# Altium integrated library Xilinx XC9500.IntLib: 208 symbols (part 2 of 16)
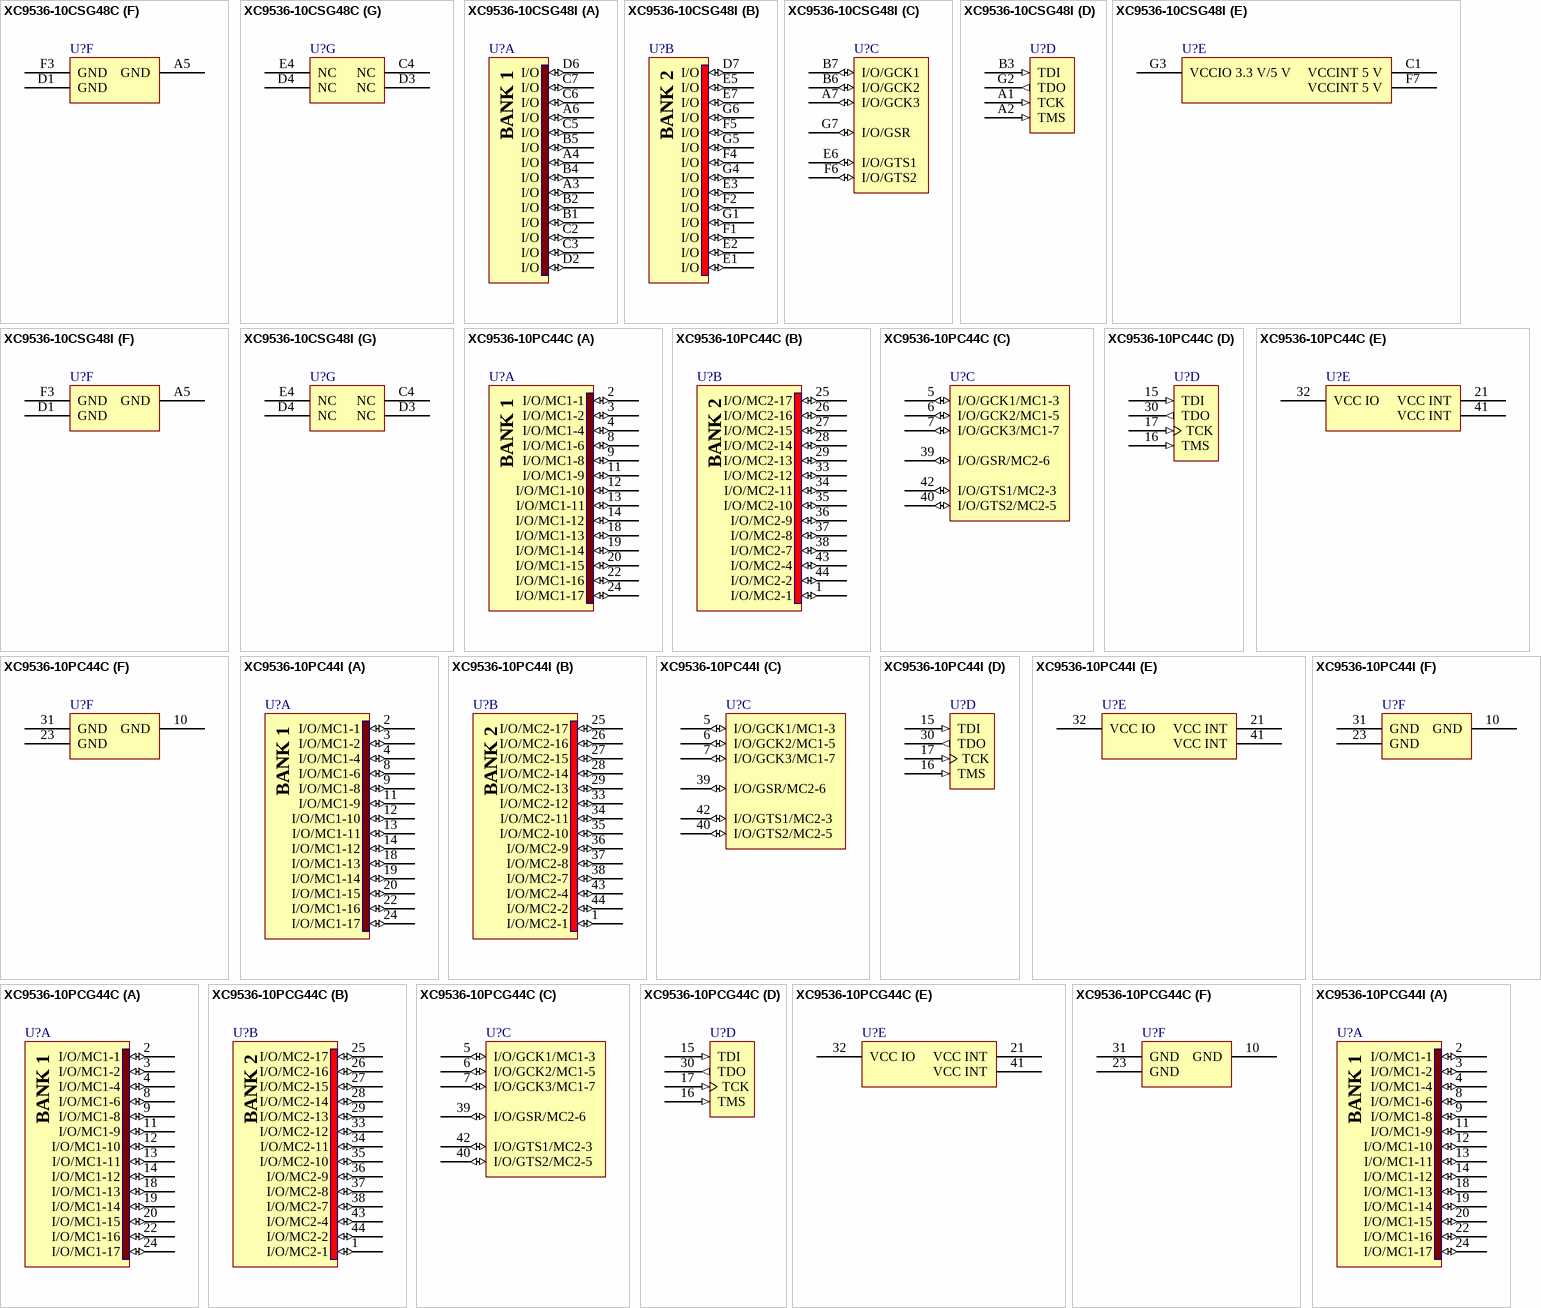
[diagram p74: symbols XC9536-10CSG48C to XC9536-10PCG44I]

## XC9536-10CSG48I
designator U?
XC9500 5V, 36 Macrocell CPLD, 34 User I/Os, 48-Ball CSBGA, Industrial Grade, Pb-Free; Published: 8-Sep-2006; LatestRevisionDate: 18-Nov-2009; LatestRevisionNote: Updated to family datasheet version 5.5 Jun-2007.; DatasheetVersion: ver6.3, Apr-2006; PackageVersion: ver1.2.1, Apr-2005; PackageReference: CSG48; Publisher: Altium Limited; PackageDescription: 48-Ball Chip Scale Ball Grid Array (CSG48) - Pb-Free; ComponentLink1Description: XC9536 Datasheet; ComponentLink1URL: http://www.xilinx.com/support/documentation/data_sheets/ds064.pdf; ComponentLink2Description: CSG48 Package Drawing; ComponentLink2URL: http://www.xilinx.com/support/documentation/package_specs/cs48.pdf; ComponentLink3Description: XC9500 Documents; ComponentLink3URL: http://www.xilinx.com/support/documentation/xc9500.htm; ComponentLink4Description: Xilinx.com Home; ComponentLink4URL: http://www.xilinx.com
footprint CSG48 (BGA, 48-Leads, Body 7x7mm, Pitch 0.8mm)
signal-integrity model XC9536_CSG48 (XC9500)
part A pins: A3 I/O (io), A4 I/O (io), A6 I/O (io), B1 I/O (io), B2 I/O (io), B4 I/O (io), B5 I/O (io), C2 I/O (io), C3 I/O (io), C5 I/O (io), C6 I/O (io), C7 I/O (io), D2 I/O (io), D6 I/O (io)
part B pins: D7 I/O (io), E1 I/O (io), E2 I/O (io), E3 I/O (io), E5 I/O (io), E7 I/O (io), F1 I/O (io), F2 I/O (io), F4 I/O (io), F5 I/O (io), G1 I/O (io), G4 I/O (io), G5 I/O (io), G6 I/O (io)
part C pins: A7 I/O/GCK3 (io), B6 I/O/GCK2 (io), B7 I/O/GCK1 (io), E6 I/O/GTS1 (io), F6 I/O/GTS2 (io), G7 I/O/GSR (io)
part D pins: A1 TCK (in), A2 TMS (in), B3 TDI (in), G2 TDO (out)
part E pins: C1 VCCINT 5 V (power), F7 VCCINT 5 V (power), G3 VCCIO 3.3 V/5 V (power)
part F pins: A5 GND (power), D1 GND (power), F3 GND (power)
part G pins: C4 NC, D3 NC, D4 NC, E4 NC
part A text: BANK 1
part B text: BANK 2

## XC9536-10PC44C
designator U?
XC9500 5V, 36 Macrocell CPLD, 34 User I/Os, 44-Pin PLCC, Commercial Grade; Published: 8-Jun-2000; LatestRevisionDate: 18-Nov-2009; LatestRevisionNote: Updated to family datasheet version 5.5 Jun-2007.; DatasheetVersion: ver6.3, Apr-2006; PackageVersion: ver1.2, Jun-2004; PackageReference: PC44; Publisher: Altium Limited; PackageDescription: 44-Pin Plastic Leaded Chip Carrier (PC44); Supplier 1: Digi-Key; Supplier Part Number 1: XC9536-10PC44C-ND; Code_JEDEC: MS-047; Code_IPC: PLCC-44; ComponentLink1Description: XC9536 Datasheet; ComponentLink1URL: http://www.xilinx.com/support/documentation/data_sheets/ds064.pdf; ComponentLink2Description: PC44 Package Drawing; ComponentLink2URL: http://www.xilinx.com/support/documentation/package_specs/pc44.pdf; ComponentLink3Description: XC9500 Documents; ComponentLink3URL: http://www.xilinx.com/support/documentation/xc9500.htm; ComponentLink4Description: Xilinx.com Home; ComponentLink4URL: http://www.xilinx.com
footprint PC44_N (Leaded Chip Carrier, 44-Leads, Body 16.6x16.6mm, Pitch 1.27mm, IPC Medium Density)
footprint PC44_L (Leaded Chip Carrier, 44-Leads, Body 16.6x16.6mm, Pitch 1.27mm, IPC High Density)
footprint PC44_M (Leaded Chip Carrier, 44-Leads, Body 16.6x16.6mm, Pitch 1.27mm, IPC Low Density)
signal-integrity model XC9536_PLCC44 (XC9500)
part A pins: 2 I/O/MC1-1 (io), 3 I/O/MC1-2 (io), 4 I/O/MC1-4 (io), 8 I/O/MC1-6 (io), 9 I/O/MC1-8 (io), 11 I/O/MC1-9 (io), 12 I/O/MC1-10 (io), 13 I/O/MC1-11 (io), 14 I/O/MC1-12 (io), 18 I/O/MC1-13 (io), 19 I/O/MC1-14 (io), 20 I/O/MC1-15 (io), 22 I/O/MC1-16 (io), 24 I/O/MC1-17 (io)
part B pins: 1 I/O/MC2-1 (io), 25 I/O/MC2-17 (io), 26 I/O/MC2-16 (io), 27 I/O/MC2-15 (io), 28 I/O/MC2-14 (io), 29 I/O/MC2-13 (io), 33 I/O/MC2-12 (io), 34 I/O/MC2-11 (io), 35 I/O/MC2-10 (io), 36 I/O/MC2-9 (io), 37 I/O/MC2-8 (io), 38 I/O/MC2-7 (io), 43 I/O/MC2-4 (io), 44 I/O/MC2-2 (io)
part C pins: 5 I/O/GCK1/MC1-3 (io), 6 I/O/GCK2/MC1-5 (io), 7 I/O/GCK3/MC1-7 (io), 39 I/O/GSR/MC2-6 (io), 40 I/O/GTS2/MC2-5 (io), 42 I/O/GTS1/MC2-3 (io)
part D pins: 15 TDI (in), 16 TMS (in), 17 TCK (in), 30 TDO (out)
part E pins: 21 VCC INT (power), 32 VCC IO (power), 41 VCC INT (power)
part F pins: 10 GND (power), 23 GND (power), 31 GND (power)
part A text: BANK 1
part B text: BANK 2

## XC9536-10PC44I
designator U?
XC9500 5V, 36 Macrocell CPLD, 34 User I/Os, 44-Pin PLCC, Industrial Grade; Published: 8-Jun-2000; LatestRevisionDate: 18-Nov-2009; LatestRevisionNote: Updated to family datasheet version 5.5 Jun-2007.; DatasheetVersion: ver6.3, Apr-2006; PackageVersion: ver1.2, Jun-2004; PackageReference: PC44; Publisher: Altium Limited; PackageDescription: 44-Pin Plastic Leaded Chip Carrier (PC44); Supplier 1: Digi-Key; Supplier Part Number 1: XC9536-10PC44I-ND; Code_JEDEC: MS-047; Code_IPC: PLCC-44; ComponentLink1Description: XC9536 Datasheet; ComponentLink1URL: http://www.xilinx.com/support/documentation/data_sheets/ds064.pdf; ComponentLink2Description: PC44 Package Drawing; ComponentLink2URL: http://www.xilinx.com/support/documentation/package_specs/pc44.pdf; ComponentLink3Description: XC9500 Documents; ComponentLink3URL: http://www.xilinx.com/support/documentation/xc9500.htm; ComponentLink4Description: Xilinx.com Home; ComponentLink4URL: http://www.xilinx.com
footprint PC44_N (Leaded Chip Carrier, 44-Leads, Body 16.6x16.6mm, Pitch 1.27mm, IPC Medium Density)
footprint PC44_L (Leaded Chip Carrier, 44-Leads, Body 16.6x16.6mm, Pitch 1.27mm, IPC High Density)
footprint PC44_M (Leaded Chip Carrier, 44-Leads, Body 16.6x16.6mm, Pitch 1.27mm, IPC Low Density)
signal-integrity model XC9536_PLCC44 (XC9500)
part A pins: 2 I/O/MC1-1 (io), 3 I/O/MC1-2 (io), 4 I/O/MC1-4 (io), 8 I/O/MC1-6 (io), 9 I/O/MC1-8 (io), 11 I/O/MC1-9 (io), 12 I/O/MC1-10 (io), 13 I/O/MC1-11 (io), 14 I/O/MC1-12 (io), 18 I/O/MC1-13 (io), 19 I/O/MC1-14 (io), 20 I/O/MC1-15 (io), 22 I/O/MC1-16 (io), 24 I/O/MC1-17 (io)
part B pins: 1 I/O/MC2-1 (io), 25 I/O/MC2-17 (io), 26 I/O/MC2-16 (io), 27 I/O/MC2-15 (io), 28 I/O/MC2-14 (io), 29 I/O/MC2-13 (io), 33 I/O/MC2-12 (io), 34 I/O/MC2-11 (io), 35 I/O/MC2-10 (io), 36 I/O/MC2-9 (io), 37 I/O/MC2-8 (io), 38 I/O/MC2-7 (io), 43 I/O/MC2-4 (io), 44 I/O/MC2-2 (io)
part C pins: 5 I/O/GCK1/MC1-3 (io), 6 I/O/GCK2/MC1-5 (io), 7 I/O/GCK3/MC1-7 (io), 39 I/O/GSR/MC2-6 (io), 40 I/O/GTS2/MC2-5 (io), 42 I/O/GTS1/MC2-3 (io)
part D pins: 15 TDI (in), 16 TMS (in), 17 TCK (in), 30 TDO (out)
part E pins: 21 VCC INT (power), 32 VCC IO (power), 41 VCC INT (power)
part F pins: 10 GND (power), 23 GND (power), 31 GND (power)
part A text: BANK 1
part B text: BANK 2

## XC9536-10PCG44C
designator U?
XC9500 5V, 36 Macrocell CPLD, 34 User I/Os, 44-Pin PLCC, Commercial Grade, Pb-Free; Published: 8-Sep-2006; LatestRevisionDate: 18-Nov-2009; LatestRevisionNote: Updated to family datasheet version 5.5 Jun-2007.; DatasheetVersion: ver6.3, Apr-2006; PackageVersion: ver1.2, Jun-2004; PackageReference: PCG44; Publisher: Altium Limited; PackageDescription: 44-Pin Plastic Leaded Chip Carrier (PCG44) - Pb-Free; Supplier 1: Digi-Key; Supplier Part Number 1: 122-1431-ND; Code_JEDEC: MS-047; Code_IPC: PLCC-44; ComponentLink1Description: XC9536 Datasheet; ComponentLink1URL: http://www.xilinx.com/support/documentation/data_sheets/ds064.pdf; ComponentLink2Description: PCG44 Package Drawing; ComponentLink2URL: http://www.xilinx.com/support/documentation/package_specs/pc44.pdf; ComponentLink3Description: XC9500 Documents; ComponentLink3URL: http://www.xilinx.com/support/documentation/xc9500.htm; ComponentLink4Description: Xilinx.com Home; ComponentLink4URL: http://www.xilinx.com
footprint PCG44_N (Leaded Chip Carrier, 44-Leads, Body 16.6x16.6mm, Pitch 1.27mm, IPC Medium Density)
footprint PCG44_L (Leaded Chip Carrier, 44-Leads, Body 16.6x16.6mm, Pitch 1.27mm, IPC High Density)
footprint PCG44_M (Leaded Chip Carrier, 44-Leads, Body 16.6x16.6mm, Pitch 1.27mm, IPC Low Density)
signal-integrity model XC9536_PCG44 (XC9500)
part A pins: 2 I/O/MC1-1 (io), 3 I/O/MC1-2 (io), 4 I/O/MC1-4 (io), 8 I/O/MC1-6 (io), 9 I/O/MC1-8 (io), 11 I/O/MC1-9 (io), 12 I/O/MC1-10 (io), 13 I/O/MC1-11 (io), 14 I/O/MC1-12 (io), 18 I/O/MC1-13 (io), 19 I/O/MC1-14 (io), 20 I/O/MC1-15 (io), 22 I/O/MC1-16 (io), 24 I/O/MC1-17 (io)
part B pins: 1 I/O/MC2-1 (io), 25 I/O/MC2-17 (io), 26 I/O/MC2-16 (io), 27 I/O/MC2-15 (io), 28 I/O/MC2-14 (io), 29 I/O/MC2-13 (io), 33 I/O/MC2-12 (io), 34 I/O/MC2-11 (io), 35 I/O/MC2-10 (io), 36 I/O/MC2-9 (io), 37 I/O/MC2-8 (io), 38 I/O/MC2-7 (io), 43 I/O/MC2-4 (io), 44 I/O/MC2-2 (io)
part C pins: 5 I/O/GCK1/MC1-3 (io), 6 I/O/GCK2/MC1-5 (io), 7 I/O/GCK3/MC1-7 (io), 39 I/O/GSR/MC2-6 (io), 40 I/O/GTS2/MC2-5 (io), 42 I/O/GTS1/MC2-3 (io)
part D pins: 15 TDI (in), 16 TMS (in), 17 TCK (in), 30 TDO (out)
part E pins: 21 VCC INT (power), 32 VCC IO (power), 41 VCC INT (power)
part F pins: 10 GND (power), 23 GND (power), 31 GND (power)
part A text: BANK 1
part B text: BANK 2

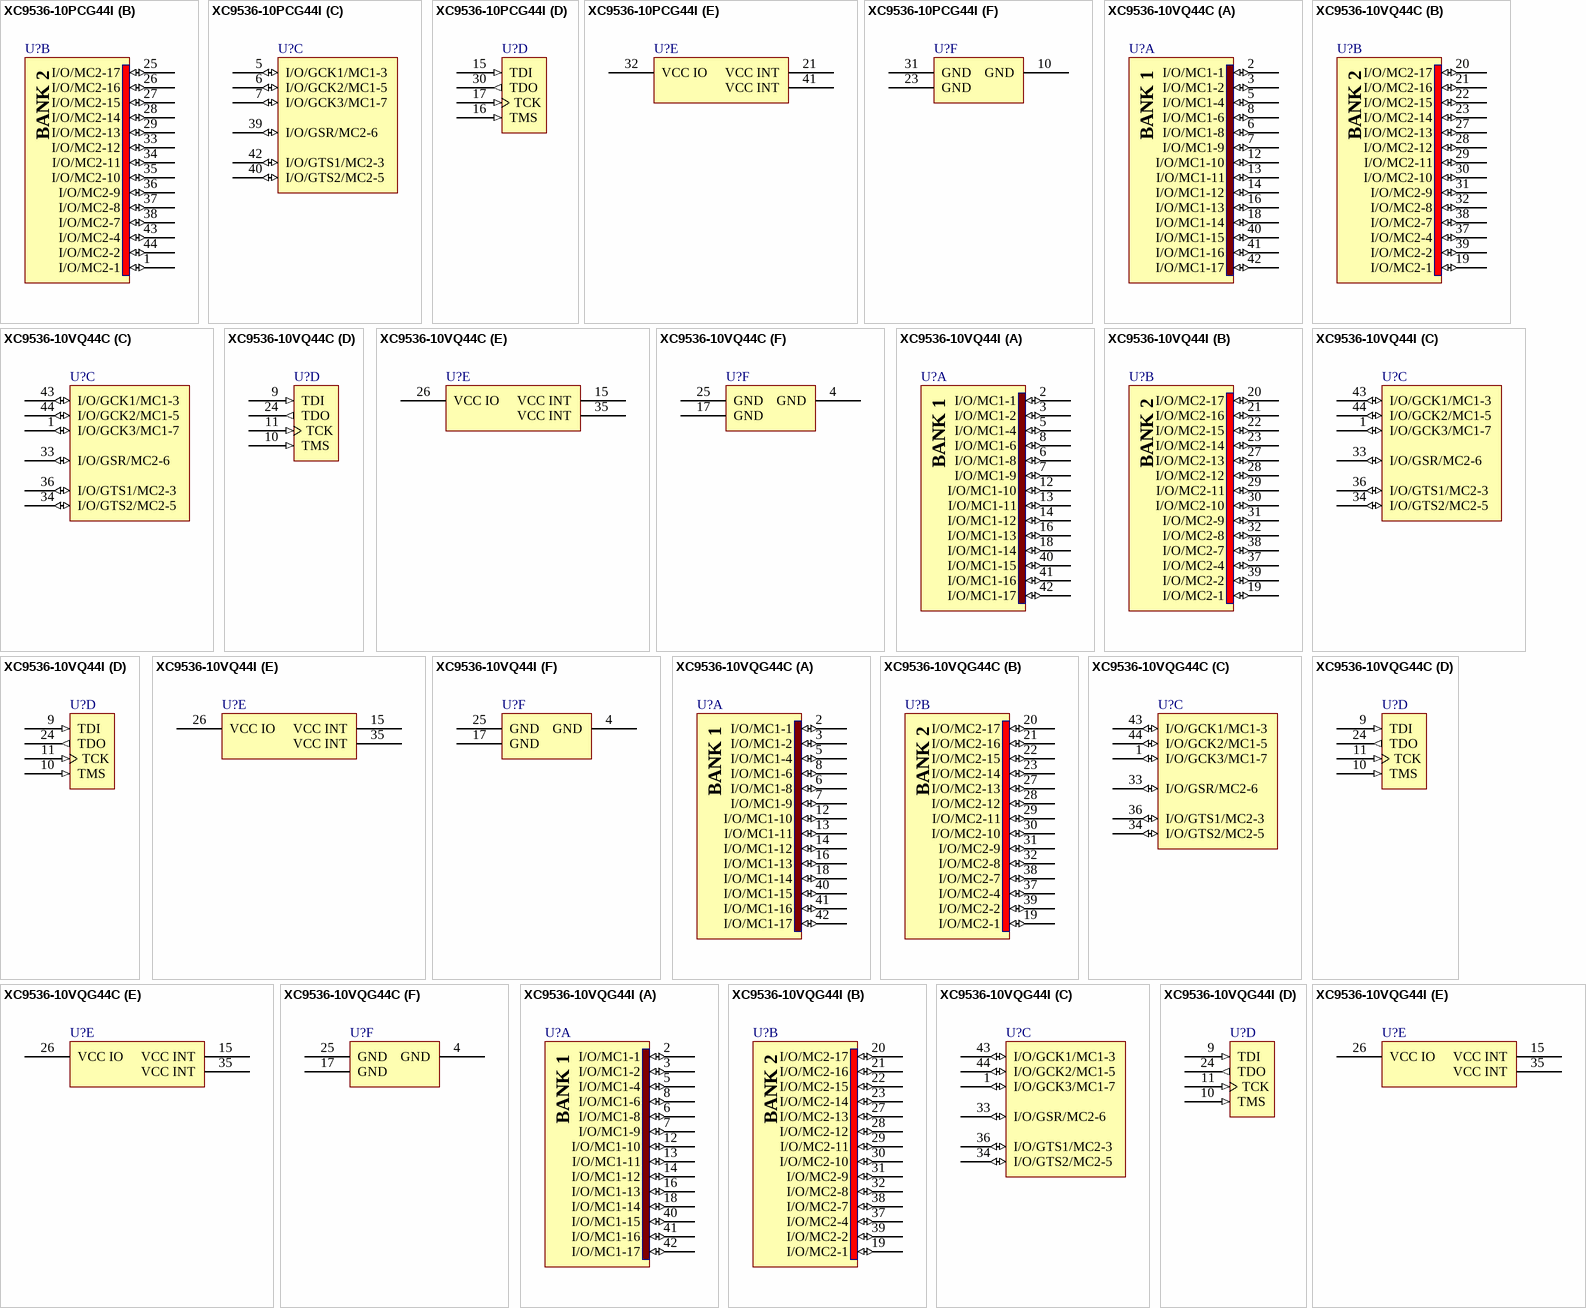
[diagram p6: symbols XC9536-10PCG44I to XC9536-10VQG44I]

## XC9536-10PCG44I
designator U?
XC9500 5V, 36 Macrocell CPLD, 34 User I/Os, 44-Pin PLCC, Industrial Grade, Pb-Free; Published: 8-Sep-2006; LatestRevisionDate: 18-Nov-2009; LatestRevisionNote: Updated to family datasheet version 5.5 Jun-2007.; DatasheetVersion: ver6.3, Apr-2006; PackageVersion: ver1.2, Jun-2004; PackageReference: PCG44; Publisher: Altium Limited; PackageDescription: 44-Pin Plastic Leaded Chip Carrier (PCG44) - Pb-Free; Code_JEDEC: MS-047; Code_IPC: PLCC-44; ComponentLink1Description: XC9536 Datasheet; ComponentLink1URL: http://www.xilinx.com/support/documentation/data_sheets/ds064.pdf; ComponentLink2Description: PCG44 Package Drawing; ComponentLink2URL: http://www.xilinx.com/support/documentation/package_specs/pc44.pdf; ComponentLink3Description: XC9500 Documents; ComponentLink3URL: http://www.xilinx.com/support/documentation/xc9500.htm; ComponentLink4Description: Xilinx.com Home; ComponentLink4URL: http://www.xilinx.com
footprint PCG44_N (Leaded Chip Carrier, 44-Leads, Body 16.6x16.6mm, Pitch 1.27mm, IPC Medium Density)
footprint PCG44_L (Leaded Chip Carrier, 44-Leads, Body 16.6x16.6mm, Pitch 1.27mm, IPC High Density)
footprint PCG44_M (Leaded Chip Carrier, 44-Leads, Body 16.6x16.6mm, Pitch 1.27mm, IPC Low Density)
signal-integrity model XC9536_PCG44 (XC9500)
part A pins: 2 I/O/MC1-1 (io), 3 I/O/MC1-2 (io), 4 I/O/MC1-4 (io), 8 I/O/MC1-6 (io), 9 I/O/MC1-8 (io), 11 I/O/MC1-9 (io), 12 I/O/MC1-10 (io), 13 I/O/MC1-11 (io), 14 I/O/MC1-12 (io), 18 I/O/MC1-13 (io), 19 I/O/MC1-14 (io), 20 I/O/MC1-15 (io), 22 I/O/MC1-16 (io), 24 I/O/MC1-17 (io)
part B pins: 1 I/O/MC2-1 (io), 25 I/O/MC2-17 (io), 26 I/O/MC2-16 (io), 27 I/O/MC2-15 (io), 28 I/O/MC2-14 (io), 29 I/O/MC2-13 (io), 33 I/O/MC2-12 (io), 34 I/O/MC2-11 (io), 35 I/O/MC2-10 (io), 36 I/O/MC2-9 (io), 37 I/O/MC2-8 (io), 38 I/O/MC2-7 (io), 43 I/O/MC2-4 (io), 44 I/O/MC2-2 (io)
part C pins: 5 I/O/GCK1/MC1-3 (io), 6 I/O/GCK2/MC1-5 (io), 7 I/O/GCK3/MC1-7 (io), 39 I/O/GSR/MC2-6 (io), 40 I/O/GTS2/MC2-5 (io), 42 I/O/GTS1/MC2-3 (io)
part D pins: 15 TDI (in), 16 TMS (in), 17 TCK (in), 30 TDO (out)
part E pins: 21 VCC INT (power), 32 VCC IO (power), 41 VCC INT (power)
part F pins: 10 GND (power), 23 GND (power), 31 GND (power)
part A text: BANK 1
part B text: BANK 2

## XC9536-10VQ44C
designator U?
XC9500 5V, 36 Macrocell CPLD, 34 User I/Os, 44-Pin VQFP, Commercial Grade; Published: 8-Jun-2000; LatestRevisionDate: 18-Nov-2009; LatestRevisionNote: Updated to family datasheet version 5.5 Jun-2007.; DatasheetVersion: ver6.3, Apr-2006; PackageVersion: ver1.2, Jun-2004; PackageReference: VQ44; Publisher: Altium Limited; PackageDescription: 44-Pin Very Thin Quad Flat Pack (VQ44); Supplier 1: Digi-Key; Supplier Part Number 1: 122-1393-ND; Code_JEDEC: MS-026-ACB; ComponentLink1Description: XC9536 Datasheet; ComponentLink1URL: http://www.xilinx.com/support/documentation/data_sheets/ds064.pdf; ComponentLink2Description: VQ44 Package Drawing; ComponentLink2URL: http://www.xilinx.com/support/documentation/package_specs/vq44.pdf; ComponentLink3Description: XC9500 Documents; ComponentLink3URL: http://www.xilinx.com/support/documentation/xc9500.htm; ComponentLink4Description: Xilinx.com Home; ComponentLink4URL: http://www.xilinx.com
footprint VQ44_N (Thin QFP, 44-Leads, Body 10x10mm, Pitch 0.8mm, IPC Medium Density)
footprint VQ44_L (Thin QFP, 44-Leads, Body 10x10mm, Pitch 0.8mm, IPC High Density)
footprint VQ44_M (Thin QFP, 44-Leads, Body 10x10mm, Pitch 0.8mm, IPC Low Density)
signal-integrity model XC9536_VQ44 (XC9500)
part A pins: 2 I/O/MC1-1 (io), 3 I/O/MC1-2 (io), 5 I/O/MC1-4 (io), 6 I/O/MC1-8 (io), 7 I/O/MC1-9 (io), 8 I/O/MC1-6 (io), 12 I/O/MC1-10 (io), 13 I/O/MC1-11 (io), 14 I/O/MC1-12 (io), 16 I/O/MC1-13 (io), 18 I/O/MC1-14 (io), 40 I/O/MC1-15 (io), 41 I/O/MC1-16 (io), 42 I/O/MC1-17 (io)
part B pins: 19 I/O/MC2-1 (io), 20 I/O/MC2-17 (io), 21 I/O/MC2-16 (io), 22 I/O/MC2-15 (io), 23 I/O/MC2-14 (io), 27 I/O/MC2-13 (io), 28 I/O/MC2-12 (io), 29 I/O/MC2-11 (io), 30 I/O/MC2-10 (io), 31 I/O/MC2-9 (io), 32 I/O/MC2-8 (io), 37 I/O/MC2-4 (io), 38 I/O/MC2-7 (io), 39 I/O/MC2-2 (io)
part C pins: 1 I/O/GCK3/MC1-7 (io), 33 I/O/GSR/MC2-6 (io), 34 I/O/GTS2/MC2-5 (io), 36 I/O/GTS1/MC2-3 (io), 43 I/O/GCK1/MC1-3 (io), 44 I/O/GCK2/MC1-5 (io)
part D pins: 9 TDI (in), 10 TMS (in), 11 TCK (in), 24 TDO (out)
part E pins: 15 VCC INT (power), 26 VCC IO (power), 35 VCC INT (power)
part F pins: 4 GND (power), 17 GND (power), 25 GND (power)
part A text: BANK 1
part B text: BANK 2

## XC9536-10VQ44I
designator U?
XC9500 5V, 36 Macrocell CPLD, 34 User I/Os, 44-Pin VQFP, Industrial Grade; Published: 8-Jun-2000; LatestRevisionDate: 18-Nov-2009; LatestRevisionNote: Updated to family datasheet version 5.5 Jun-2007.; DatasheetVersion: ver6.3, Apr-2006; PackageVersion: ver1.2, Jun-2004; PackageReference: VQ44; Publisher: Altium Limited; PackageDescription: 44-Pin Very Thin Quad Flat Pack (VQ44); Supplier 1: Digi-Key; Supplier Part Number 1: XC9536-10VQ44I-ND; Code_JEDEC: MS-026-ACB; ComponentLink1Description: XC9536 Datasheet; ComponentLink1URL: http://www.xilinx.com/support/documentation/data_sheets/ds064.pdf; ComponentLink2Description: VQ44 Package Drawing; ComponentLink2URL: http://www.xilinx.com/support/documentation/package_specs/vq44.pdf; ComponentLink3Description: XC9500 Documents; ComponentLink3URL: http://www.xilinx.com/support/documentation/xc9500.htm; ComponentLink4Description: Xilinx.com Home; ComponentLink4URL: http://www.xilinx.com
footprint VQ44_N (Thin QFP, 44-Leads, Body 10x10mm, Pitch 0.8mm, IPC Medium Density)
footprint VQ44_L (Thin QFP, 44-Leads, Body 10x10mm, Pitch 0.8mm, IPC High Density)
footprint VQ44_M (Thin QFP, 44-Leads, Body 10x10mm, Pitch 0.8mm, IPC Low Density)
signal-integrity model XC9536_VQ44 (XC9500)
part A pins: 2 I/O/MC1-1 (io), 3 I/O/MC1-2 (io), 5 I/O/MC1-4 (io), 6 I/O/MC1-8 (io), 7 I/O/MC1-9 (io), 8 I/O/MC1-6 (io), 12 I/O/MC1-10 (io), 13 I/O/MC1-11 (io), 14 I/O/MC1-12 (io), 16 I/O/MC1-13 (io), 18 I/O/MC1-14 (io), 40 I/O/MC1-15 (io), 41 I/O/MC1-16 (io), 42 I/O/MC1-17 (io)
part B pins: 19 I/O/MC2-1 (io), 20 I/O/MC2-17 (io), 21 I/O/MC2-16 (io), 22 I/O/MC2-15 (io), 23 I/O/MC2-14 (io), 27 I/O/MC2-13 (io), 28 I/O/MC2-12 (io), 29 I/O/MC2-11 (io), 30 I/O/MC2-10 (io), 31 I/O/MC2-9 (io), 32 I/O/MC2-8 (io), 37 I/O/MC2-4 (io), 38 I/O/MC2-7 (io), 39 I/O/MC2-2 (io)
part C pins: 1 I/O/GCK3/MC1-7 (io), 33 I/O/GSR/MC2-6 (io), 34 I/O/GTS2/MC2-5 (io), 36 I/O/GTS1/MC2-3 (io), 43 I/O/GCK1/MC1-3 (io), 44 I/O/GCK2/MC1-5 (io)
part D pins: 9 TDI (in), 10 TMS (in), 11 TCK (in), 24 TDO (out)
part E pins: 15 VCC INT (power), 26 VCC IO (power), 35 VCC INT (power)
part F pins: 4 GND (power), 17 GND (power), 25 GND (power)
part A text: BANK 1
part B text: BANK 2

## XC9536-10VQG44C
designator U?
XC9500 5V, 36 Macrocell CPLD, 34 User I/Os, 44-Pin VQFP, Commercial Grade, Pb-Free; Published: 8-Sep-2006; LatestRevisionDate: 18-Nov-2009; LatestRevisionNote: Updated to family datasheet version 5.5 Jun-2007.; DatasheetVersion: ver6.3, Apr-2006; PackageVersion: ver1.2, Jun-2004; PackageReference: VQG44; Publisher: Altium Limited; PackageDescription: 44-Pin Very Thin Quad Flat Pack (VQG44) - Pb-Free; Supplier 1: Digi-Key; Supplier Part Number 1: 122-1432-ND; Code_JEDEC: MS-026-ACB; ComponentLink1Description: XC9536 Datasheet; ComponentLink1URL: http://www.xilinx.com/support/documentation/data_sheets/ds064.pdf; ComponentLink2Description: VQG44 Package Drawing; ComponentLink2URL: http://www.xilinx.com/support/documentation/package_specs/vq44.pdf; ComponentLink3Description: XC9500 Documents; ComponentLink3URL: http://www.xilinx.com/support/documentation/xc9500.htm; ComponentLink4Description: Xilinx.com Home; ComponentLink4URL: http://www.xilinx.com
footprint VQG44_N (Thin QFP, 44-Leads, Body 10x10mm, Pitch 0.8mm, IPC Medium Density)
footprint VQG44_L (Thin QFP, 44-Leads, Body 10x10mm, Pitch 0.8mm, IPC High Density)
footprint VQG44_M (Thin QFP, 44-Leads, Body 10x10mm, Pitch 0.8mm, IPC Low Density)
signal-integrity model XC9536_VQG44 (XC9500)
part A pins: 2 I/O/MC1-1 (io), 3 I/O/MC1-2 (io), 5 I/O/MC1-4 (io), 6 I/O/MC1-8 (io), 7 I/O/MC1-9 (io), 8 I/O/MC1-6 (io), 12 I/O/MC1-10 (io), 13 I/O/MC1-11 (io), 14 I/O/MC1-12 (io), 16 I/O/MC1-13 (io), 18 I/O/MC1-14 (io), 40 I/O/MC1-15 (io), 41 I/O/MC1-16 (io), 42 I/O/MC1-17 (io)
part B pins: 19 I/O/MC2-1 (io), 20 I/O/MC2-17 (io), 21 I/O/MC2-16 (io), 22 I/O/MC2-15 (io), 23 I/O/MC2-14 (io), 27 I/O/MC2-13 (io), 28 I/O/MC2-12 (io), 29 I/O/MC2-11 (io), 30 I/O/MC2-10 (io), 31 I/O/MC2-9 (io), 32 I/O/MC2-8 (io), 37 I/O/MC2-4 (io), 38 I/O/MC2-7 (io), 39 I/O/MC2-2 (io)
part C pins: 1 I/O/GCK3/MC1-7 (io), 33 I/O/GSR/MC2-6 (io), 34 I/O/GTS2/MC2-5 (io), 36 I/O/GTS1/MC2-3 (io), 43 I/O/GCK1/MC1-3 (io), 44 I/O/GCK2/MC1-5 (io)
part D pins: 9 TDI (in), 10 TMS (in), 11 TCK (in), 24 TDO (out)
part E pins: 15 VCC INT (power), 26 VCC IO (power), 35 VCC INT (power)
part F pins: 4 GND (power), 17 GND (power), 25 GND (power)
part A text: BANK 1
part B text: BANK 2

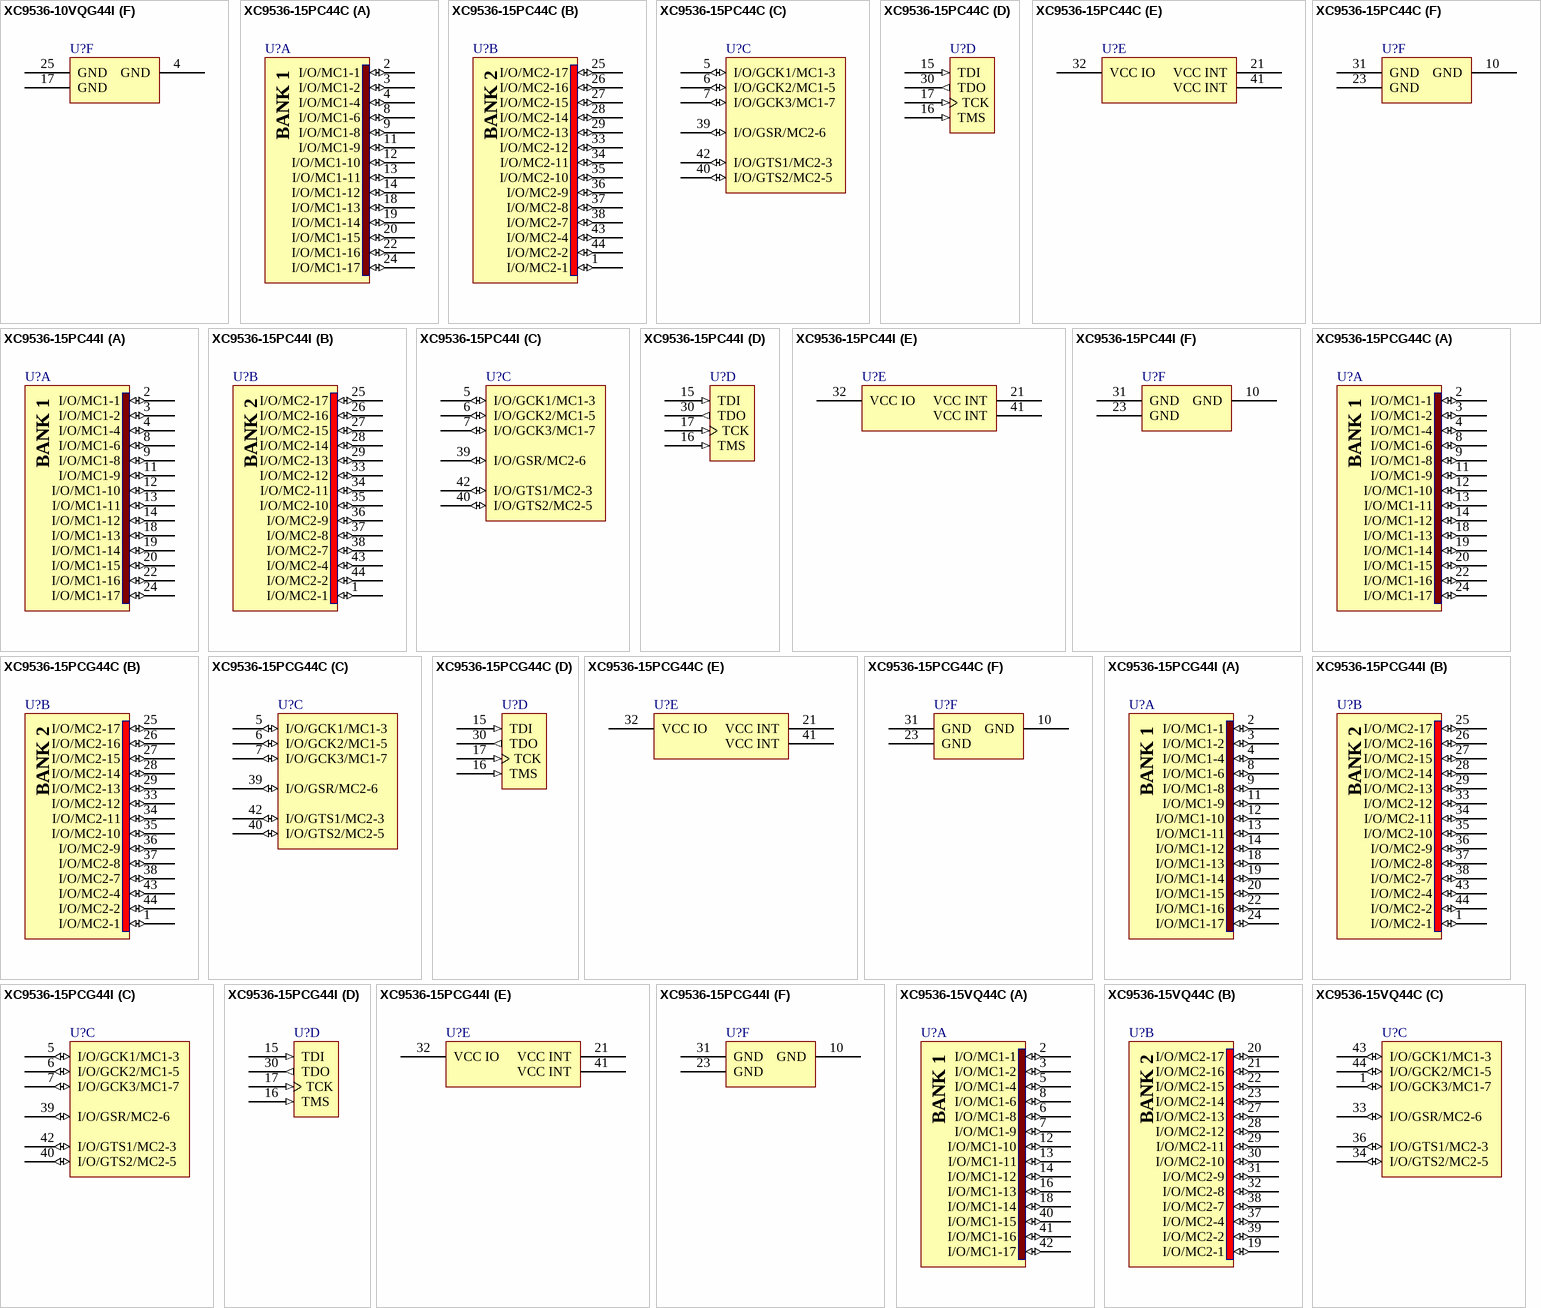
[diagram p7: symbols XC9536-10VQG44I to XC9536-15VQ44C]

## XC9536-10VQG44I
designator U?
XC9500 5V, 36 Macrocell CPLD, 34 User I/Os, 44-Pin VQFP, Industrial Grade, Pb-Free; Published: 8-Sep-2006; LatestRevisionDate: 18-Nov-2009; LatestRevisionNote: Updated to family datasheet version 5.5 Jun-2007.; DatasheetVersion: ver6.3, Apr-2006; PackageVersion: ver1.2, Jun-2004; PackageReference: VQG44; Publisher: Altium Limited; PackageDescription: 44-Pin Very Thin Quad Flat Pack (VQG44) - Pb-Free; Code_JEDEC: MS-026-ACB; ComponentLink1Description: XC9536 Datasheet; ComponentLink1URL: http://www.xilinx.com/support/documentation/data_sheets/ds064.pdf; ComponentLink2Description: VQG44 Package Drawing; ComponentLink2URL: http://www.xilinx.com/support/documentation/package_specs/vq44.pdf; ComponentLink3Description: XC9500 Documents; ComponentLink3URL: http://www.xilinx.com/support/documentation/xc9500.htm; ComponentLink4Description: Xilinx.com Home; ComponentLink4URL: http://www.xilinx.com
footprint VQG44_N (Thin QFP, 44-Leads, Body 10x10mm, Pitch 0.8mm, IPC Medium Density)
footprint VQG44_L (Thin QFP, 44-Leads, Body 10x10mm, Pitch 0.8mm, IPC High Density)
footprint VQG44_M (Thin QFP, 44-Leads, Body 10x10mm, Pitch 0.8mm, IPC Low Density)
signal-integrity model XC9536_VQG44 (XC9500)
part A pins: 2 I/O/MC1-1 (io), 3 I/O/MC1-2 (io), 5 I/O/MC1-4 (io), 6 I/O/MC1-8 (io), 7 I/O/MC1-9 (io), 8 I/O/MC1-6 (io), 12 I/O/MC1-10 (io), 13 I/O/MC1-11 (io), 14 I/O/MC1-12 (io), 16 I/O/MC1-13 (io), 18 I/O/MC1-14 (io), 40 I/O/MC1-15 (io), 41 I/O/MC1-16 (io), 42 I/O/MC1-17 (io)
part B pins: 19 I/O/MC2-1 (io), 20 I/O/MC2-17 (io), 21 I/O/MC2-16 (io), 22 I/O/MC2-15 (io), 23 I/O/MC2-14 (io), 27 I/O/MC2-13 (io), 28 I/O/MC2-12 (io), 29 I/O/MC2-11 (io), 30 I/O/MC2-10 (io), 31 I/O/MC2-9 (io), 32 I/O/MC2-8 (io), 37 I/O/MC2-4 (io), 38 I/O/MC2-7 (io), 39 I/O/MC2-2 (io)
part C pins: 1 I/O/GCK3/MC1-7 (io), 33 I/O/GSR/MC2-6 (io), 34 I/O/GTS2/MC2-5 (io), 36 I/O/GTS1/MC2-3 (io), 43 I/O/GCK1/MC1-3 (io), 44 I/O/GCK2/MC1-5 (io)
part D pins: 9 TDI (in), 10 TMS (in), 11 TCK (in), 24 TDO (out)
part E pins: 15 VCC INT (power), 26 VCC IO (power), 35 VCC INT (power)
part F pins: 4 GND (power), 17 GND (power), 25 GND (power)
part A text: BANK 1
part B text: BANK 2

## XC9536-15PC44C
designator U?
XC9500 5V, 36 Macrocell CPLD, 34 User I/Os, 44-Pin PLCC, Commercial Grade; Published: 8-Jun-2000; LatestRevisionDate: 18-Nov-2009; LatestRevisionNote: Updated to family datasheet version 5.5 Jun-2007.; DatasheetVersion: ver6.3, Apr-2006; PackageVersion: ver1.2, Jun-2004; PackageReference: PC44; Publisher: Altium Limited; PackageDescription: 44-Pin Plastic Leaded Chip Carrier (PC44); Supplier 1: Digi-Key; Supplier Part Number 1: 122-1167-ND; Code_JEDEC: MS-047; Code_IPC: PLCC-44; ComponentLink1Description: XC9536 Datasheet; ComponentLink1URL: http://www.xilinx.com/support/documentation/data_sheets/ds064.pdf; ComponentLink2Description: PC44 Package Drawing; ComponentLink2URL: http://www.xilinx.com/support/documentation/package_specs/pc44.pdf; ComponentLink3Description: XC9500 Documents; ComponentLink3URL: http://www.xilinx.com/support/documentation/xc9500.htm; ComponentLink4Description: Xilinx.com Home; ComponentLink4URL: http://www.xilinx.com
footprint PC44_N (Leaded Chip Carrier, 44-Leads, Body 16.6x16.6mm, Pitch 1.27mm, IPC Medium Density)
footprint PC44_L (Leaded Chip Carrier, 44-Leads, Body 16.6x16.6mm, Pitch 1.27mm, IPC High Density)
footprint PC44_M (Leaded Chip Carrier, 44-Leads, Body 16.6x16.6mm, Pitch 1.27mm, IPC Low Density)
signal-integrity model XC9536_PLCC44 (XC9500)
part A pins: 2 I/O/MC1-1 (io), 3 I/O/MC1-2 (io), 4 I/O/MC1-4 (io), 8 I/O/MC1-6 (io), 9 I/O/MC1-8 (io), 11 I/O/MC1-9 (io), 12 I/O/MC1-10 (io), 13 I/O/MC1-11 (io), 14 I/O/MC1-12 (io), 18 I/O/MC1-13 (io), 19 I/O/MC1-14 (io), 20 I/O/MC1-15 (io), 22 I/O/MC1-16 (io), 24 I/O/MC1-17 (io)
part B pins: 1 I/O/MC2-1 (io), 25 I/O/MC2-17 (io), 26 I/O/MC2-16 (io), 27 I/O/MC2-15 (io), 28 I/O/MC2-14 (io), 29 I/O/MC2-13 (io), 33 I/O/MC2-12 (io), 34 I/O/MC2-11 (io), 35 I/O/MC2-10 (io), 36 I/O/MC2-9 (io), 37 I/O/MC2-8 (io), 38 I/O/MC2-7 (io), 43 I/O/MC2-4 (io), 44 I/O/MC2-2 (io)
part C pins: 5 I/O/GCK1/MC1-3 (io), 6 I/O/GCK2/MC1-5 (io), 7 I/O/GCK3/MC1-7 (io), 39 I/O/GSR/MC2-6 (io), 40 I/O/GTS2/MC2-5 (io), 42 I/O/GTS1/MC2-3 (io)
part D pins: 15 TDI (in), 16 TMS (in), 17 TCK (in), 30 TDO (out)
part E pins: 21 VCC INT (power), 32 VCC IO (power), 41 VCC INT (power)
part F pins: 10 GND (power), 23 GND (power), 31 GND (power)
part A text: BANK 1
part B text: BANK 2

## XC9536-15PC44I
designator U?
XC9500 5V, 36 Macrocell CPLD, 34 User I/Os, 44-Pin PLCC, Industrial Grade; Published: 8-Jun-2000; LatestRevisionDate: 18-Nov-2009; LatestRevisionNote: Updated to family datasheet version 5.5 Jun-2007.; DatasheetVersion: ver6.3, Apr-2006; PackageVersion: ver1.2, Jun-2004; PackageReference: PC44; Publisher: Altium Limited; PackageDescription: 44-Pin Plastic Leaded Chip Carrier (PC44); Supplier 1: Digi-Key; Supplier Part Number 1: XC9536-15PC44I-ND; Code_JEDEC: MS-047; Code_IPC: PLCC-44; ComponentLink1Description: XC9536 Datasheet; ComponentLink1URL: http://www.xilinx.com/support/documentation/data_sheets/ds064.pdf; ComponentLink2Description: PC44 Package Drawing; ComponentLink2URL: http://www.xilinx.com/support/documentation/package_specs/pc44.pdf; ComponentLink3Description: XC9500 Documents; ComponentLink3URL: http://www.xilinx.com/support/documentation/xc9500.htm; ComponentLink4Description: Xilinx.com Home; ComponentLink4URL: http://www.xilinx.com
footprint PC44_N (Leaded Chip Carrier, 44-Leads, Body 16.6x16.6mm, Pitch 1.27mm, IPC Medium Density)
footprint PC44_L (Leaded Chip Carrier, 44-Leads, Body 16.6x16.6mm, Pitch 1.27mm, IPC High Density)
footprint PC44_M (Leaded Chip Carrier, 44-Leads, Body 16.6x16.6mm, Pitch 1.27mm, IPC Low Density)
signal-integrity model XC9536_PLCC44 (XC9500)
part A pins: 2 I/O/MC1-1 (io), 3 I/O/MC1-2 (io), 4 I/O/MC1-4 (io), 8 I/O/MC1-6 (io), 9 I/O/MC1-8 (io), 11 I/O/MC1-9 (io), 12 I/O/MC1-10 (io), 13 I/O/MC1-11 (io), 14 I/O/MC1-12 (io), 18 I/O/MC1-13 (io), 19 I/O/MC1-14 (io), 20 I/O/MC1-15 (io), 22 I/O/MC1-16 (io), 24 I/O/MC1-17 (io)
part B pins: 1 I/O/MC2-1 (io), 25 I/O/MC2-17 (io), 26 I/O/MC2-16 (io), 27 I/O/MC2-15 (io), 28 I/O/MC2-14 (io), 29 I/O/MC2-13 (io), 33 I/O/MC2-12 (io), 34 I/O/MC2-11 (io), 35 I/O/MC2-10 (io), 36 I/O/MC2-9 (io), 37 I/O/MC2-8 (io), 38 I/O/MC2-7 (io), 43 I/O/MC2-4 (io), 44 I/O/MC2-2 (io)
part C pins: 5 I/O/GCK1/MC1-3 (io), 6 I/O/GCK2/MC1-5 (io), 7 I/O/GCK3/MC1-7 (io), 39 I/O/GSR/MC2-6 (io), 40 I/O/GTS2/MC2-5 (io), 42 I/O/GTS1/MC2-3 (io)
part D pins: 15 TDI (in), 16 TMS (in), 17 TCK (in), 30 TDO (out)
part E pins: 21 VCC INT (power), 32 VCC IO (power), 41 VCC INT (power)
part F pins: 10 GND (power), 23 GND (power), 31 GND (power)
part A text: BANK 1
part B text: BANK 2

## XC9536-15PCG44C
designator U?
XC9500 5V, 36 Macrocell CPLD, 34 User I/Os, 44-Pin PLCC, Commercial Grade, Pb-Free; Published: 8-Sep-2006; LatestRevisionDate: 18-Nov-2009; LatestRevisionNote: Updated to family datasheet version 5.5 Jun-2007.; DatasheetVersion: ver6.3, Apr-2006; PackageVersion: ver1.2, Jun-2004; PackageReference: PCG44; Publisher: Altium Limited; PackageDescription: 44-Pin Plastic Leaded Chip Carrier (PCG44) - Pb-Free; Supplier 1: Digi-Key; Supplier Part Number 1: 122-1433-ND; Supplier 2: Farnell; Supplier Part Number 2: 1193226; Supplier 3: Newark; Supplier Part Number 3: 98K3376; Code_JEDEC: MS-047; Code_IPC: PLCC-44; ComponentLink1Description: XC9536 Datasheet; ComponentLink1URL: http://www.xilinx.com/support/documentation/data_sheets/ds064.pdf; ComponentLink2Description: PCG44 Package Drawing; ComponentLink2URL: http://www.xilinx.com/support/documentation/package_specs/pc44.pdf; ComponentLink3Description: XC9500 Documents; ComponentLink3URL: http://www.xilinx.com/support/documentation/xc9500.htm; ComponentLink4Description: Xilinx.com Home; ComponentLink4URL: http://www.xilinx.com
footprint PCG44_N (Leaded Chip Carrier, 44-Leads, Body 16.6x16.6mm, Pitch 1.27mm, IPC Medium Density)
footprint PCG44_L (Leaded Chip Carrier, 44-Leads, Body 16.6x16.6mm, Pitch 1.27mm, IPC High Density)
footprint PCG44_M (Leaded Chip Carrier, 44-Leads, Body 16.6x16.6mm, Pitch 1.27mm, IPC Low Density)
signal-integrity model XC9536_PCG44 (XC9500)
part A pins: 2 I/O/MC1-1 (io), 3 I/O/MC1-2 (io), 4 I/O/MC1-4 (io), 8 I/O/MC1-6 (io), 9 I/O/MC1-8 (io), 11 I/O/MC1-9 (io), 12 I/O/MC1-10 (io), 13 I/O/MC1-11 (io), 14 I/O/MC1-12 (io), 18 I/O/MC1-13 (io), 19 I/O/MC1-14 (io), 20 I/O/MC1-15 (io), 22 I/O/MC1-16 (io), 24 I/O/MC1-17 (io)
part B pins: 1 I/O/MC2-1 (io), 25 I/O/MC2-17 (io), 26 I/O/MC2-16 (io), 27 I/O/MC2-15 (io), 28 I/O/MC2-14 (io), 29 I/O/MC2-13 (io), 33 I/O/MC2-12 (io), 34 I/O/MC2-11 (io), 35 I/O/MC2-10 (io), 36 I/O/MC2-9 (io), 37 I/O/MC2-8 (io), 38 I/O/MC2-7 (io), 43 I/O/MC2-4 (io), 44 I/O/MC2-2 (io)
part C pins: 5 I/O/GCK1/MC1-3 (io), 6 I/O/GCK2/MC1-5 (io), 7 I/O/GCK3/MC1-7 (io), 39 I/O/GSR/MC2-6 (io), 40 I/O/GTS2/MC2-5 (io), 42 I/O/GTS1/MC2-3 (io)
part D pins: 15 TDI (in), 16 TMS (in), 17 TCK (in), 30 TDO (out)
part E pins: 21 VCC INT (power), 32 VCC IO (power), 41 VCC INT (power)
part F pins: 10 GND (power), 23 GND (power), 31 GND (power)
part A text: BANK 1
part B text: BANK 2

## XC9536-15PCG44I
designator U?
XC9500 5V, 36 Macrocell CPLD, 34 User I/Os, 44-Pin PLCC, Industrial Grade, Pb-Free; Published: 8-Sep-2006; LatestRevisionDate: 18-Nov-2009; LatestRevisionNote: Updated to family datasheet version 5.5 Jun-2007.; DatasheetVersion: ver6.3, Apr-2006; PackageVersion: ver1.2, Jun-2004; PackageReference: PCG44; Publisher: Altium Limited; PackageDescription: 44-Pin Plastic Leaded Chip Carrier (PCG44) - Pb-Free; Code_JEDEC: MS-047; Code_IPC: PLCC-44; ComponentLink1Description: XC9536 Datasheet; ComponentLink1URL: http://www.xilinx.com/support/documentation/data_sheets/ds064.pdf; ComponentLink2Description: PCG44 Package Drawing; ComponentLink2URL: http://www.xilinx.com/support/documentation/package_specs/pc44.pdf; ComponentLink3Description: XC9500 Documents; ComponentLink3URL: http://www.xilinx.com/support/documentation/xc9500.htm; ComponentLink4Description: Xilinx.com Home; ComponentLink4URL: http://www.xilinx.com
footprint PCG44_N (Leaded Chip Carrier, 44-Leads, Body 16.6x16.6mm, Pitch 1.27mm, IPC Medium Density)
footprint PCG44_L (Leaded Chip Carrier, 44-Leads, Body 16.6x16.6mm, Pitch 1.27mm, IPC High Density)
footprint PCG44_M (Leaded Chip Carrier, 44-Leads, Body 16.6x16.6mm, Pitch 1.27mm, IPC Low Density)
signal-integrity model XC9536_PCG44 (XC9500)
part A pins: 2 I/O/MC1-1 (io), 3 I/O/MC1-2 (io), 4 I/O/MC1-4 (io), 8 I/O/MC1-6 (io), 9 I/O/MC1-8 (io), 11 I/O/MC1-9 (io), 12 I/O/MC1-10 (io), 13 I/O/MC1-11 (io), 14 I/O/MC1-12 (io), 18 I/O/MC1-13 (io), 19 I/O/MC1-14 (io), 20 I/O/MC1-15 (io), 22 I/O/MC1-16 (io), 24 I/O/MC1-17 (io)
part B pins: 1 I/O/MC2-1 (io), 25 I/O/MC2-17 (io), 26 I/O/MC2-16 (io), 27 I/O/MC2-15 (io), 28 I/O/MC2-14 (io), 29 I/O/MC2-13 (io), 33 I/O/MC2-12 (io), 34 I/O/MC2-11 (io), 35 I/O/MC2-10 (io), 36 I/O/MC2-9 (io), 37 I/O/MC2-8 (io), 38 I/O/MC2-7 (io), 43 I/O/MC2-4 (io), 44 I/O/MC2-2 (io)
part C pins: 5 I/O/GCK1/MC1-3 (io), 6 I/O/GCK2/MC1-5 (io), 7 I/O/GCK3/MC1-7 (io), 39 I/O/GSR/MC2-6 (io), 40 I/O/GTS2/MC2-5 (io), 42 I/O/GTS1/MC2-3 (io)
part D pins: 15 TDI (in), 16 TMS (in), 17 TCK (in), 30 TDO (out)
part E pins: 21 VCC INT (power), 32 VCC IO (power), 41 VCC INT (power)
part F pins: 10 GND (power), 23 GND (power), 31 GND (power)
part A text: BANK 1
part B text: BANK 2

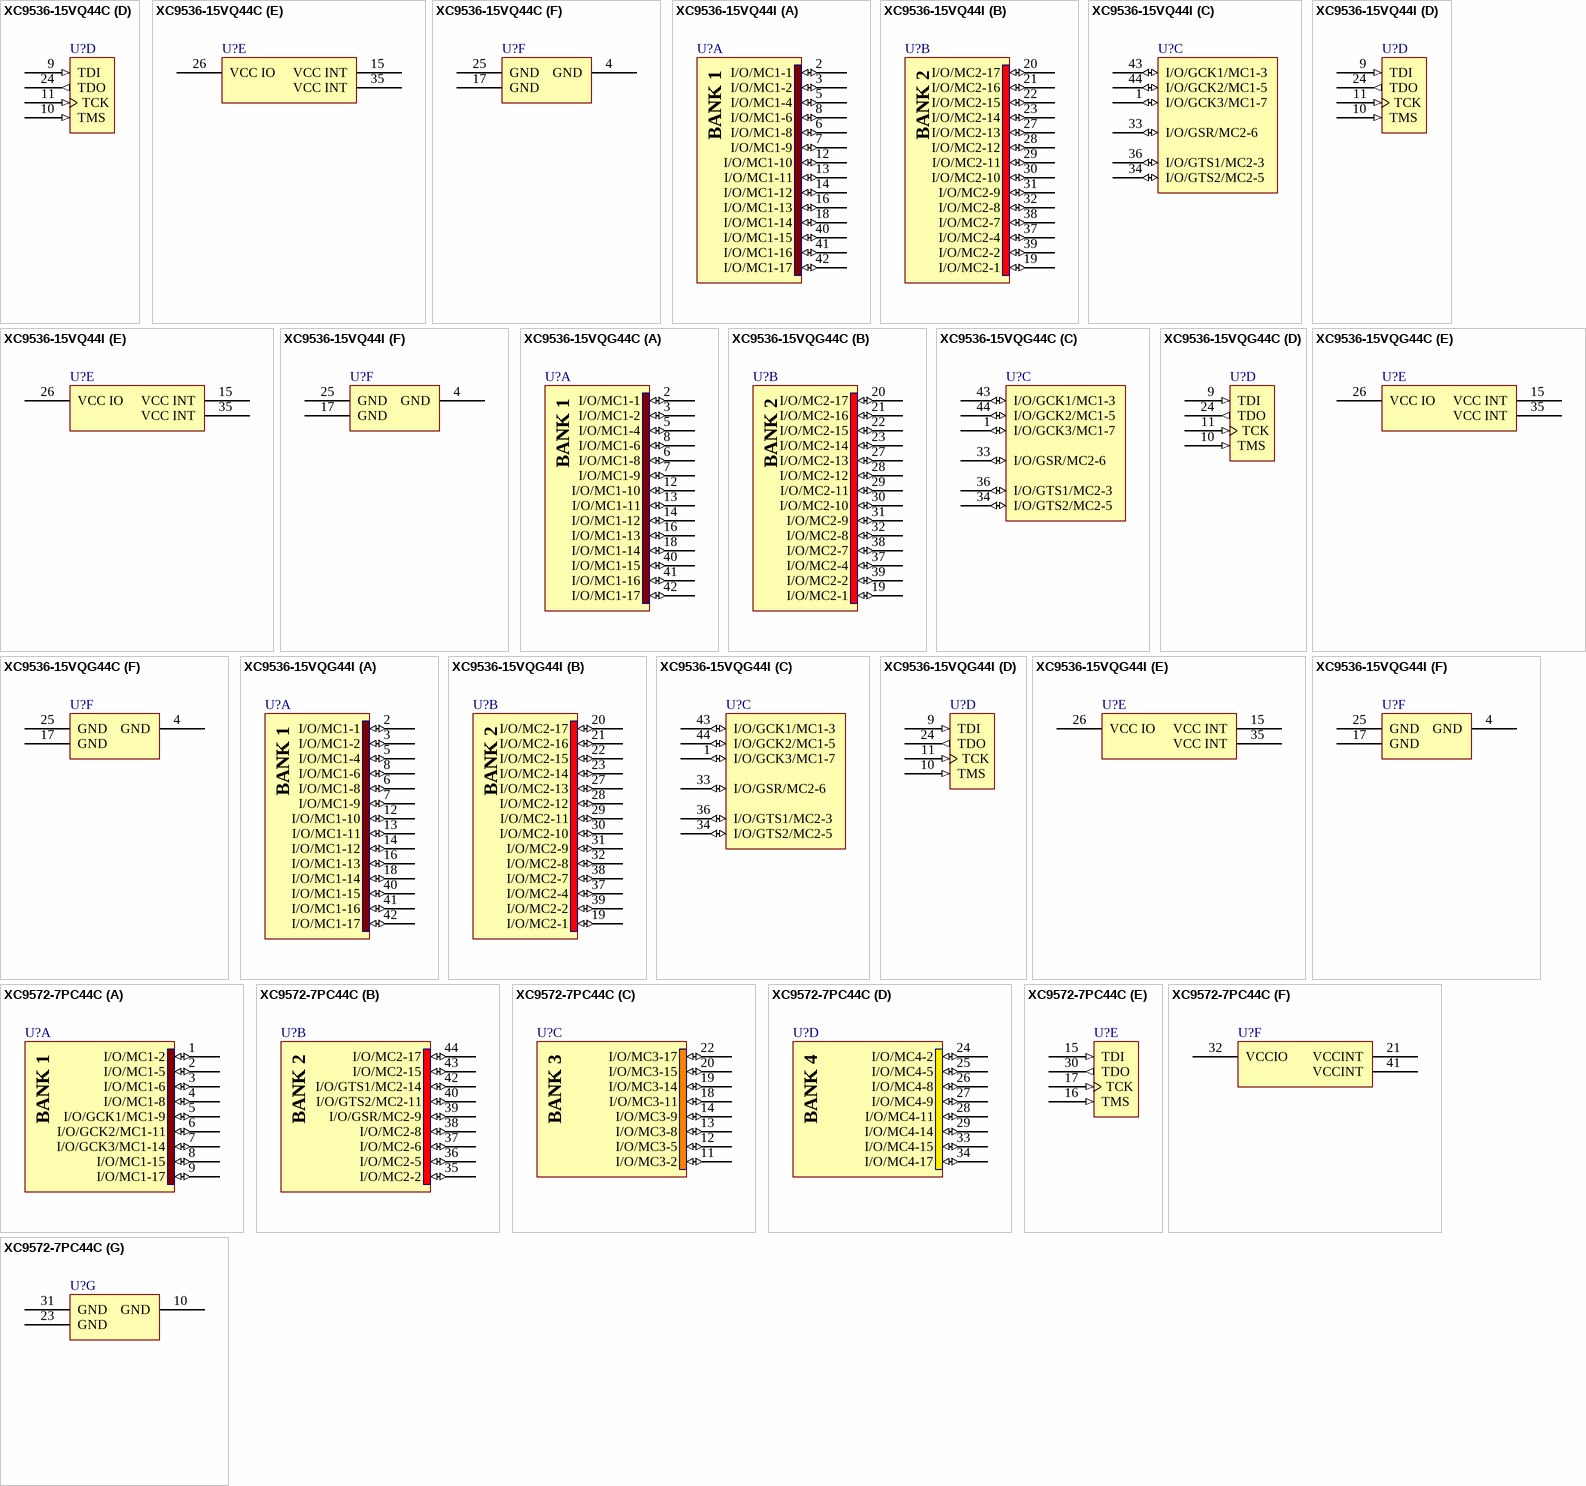
[diagram p8: symbols XC9536-15VQ44C to XC9572-7PC44C]

## XC9536-15VQ44C
designator U?
XC9500 5V, 36 Macrocell CPLD, 34 User I/Os, 44-Pin VQFP, Commercial Grade; Published: 8-Jun-2000; LatestRevisionDate: 18-Nov-2009; LatestRevisionNote: Updated to family datasheet version 5.5 Jun-2007.; DatasheetVersion: ver6.3, Apr-2006; PackageVersion: ver1.2, Jun-2004; PackageReference: VQ44; Publisher: Altium Limited; PackageDescription: 44-Pin Very Thin Quad Flat Pack (VQ44); Supplier 1: Digi-Key; Supplier Part Number 1: 122-1168-ND; Code_JEDEC: MS-026-ACB; ComponentLink1Description: XC9536 Datasheet; ComponentLink1URL: http://www.xilinx.com/support/documentation/data_sheets/ds064.pdf; ComponentLink2Description: VQ44 Package Drawing; ComponentLink2URL: http://www.xilinx.com/support/documentation/package_specs/vq44.pdf; ComponentLink3Description: XC9500 Documents; ComponentLink3URL: http://www.xilinx.com/support/documentation/xc9500.htm; ComponentLink4Description: Xilinx.com Home; ComponentLink4URL: http://www.xilinx.com
footprint VQ44_N (Thin QFP, 44-Leads, Body 10x10mm, Pitch 0.8mm, IPC Medium Density)
footprint VQ44_L (Thin QFP, 44-Leads, Body 10x10mm, Pitch 0.8mm, IPC High Density)
footprint VQ44_M (Thin QFP, 44-Leads, Body 10x10mm, Pitch 0.8mm, IPC Low Density)
signal-integrity model XC9536_VQ44 (XC9500)
part A pins: 2 I/O/MC1-1 (io), 3 I/O/MC1-2 (io), 5 I/O/MC1-4 (io), 6 I/O/MC1-8 (io), 7 I/O/MC1-9 (io), 8 I/O/MC1-6 (io), 12 I/O/MC1-10 (io), 13 I/O/MC1-11 (io), 14 I/O/MC1-12 (io), 16 I/O/MC1-13 (io), 18 I/O/MC1-14 (io), 40 I/O/MC1-15 (io), 41 I/O/MC1-16 (io), 42 I/O/MC1-17 (io)
part B pins: 19 I/O/MC2-1 (io), 20 I/O/MC2-17 (io), 21 I/O/MC2-16 (io), 22 I/O/MC2-15 (io), 23 I/O/MC2-14 (io), 27 I/O/MC2-13 (io), 28 I/O/MC2-12 (io), 29 I/O/MC2-11 (io), 30 I/O/MC2-10 (io), 31 I/O/MC2-9 (io), 32 I/O/MC2-8 (io), 37 I/O/MC2-4 (io), 38 I/O/MC2-7 (io), 39 I/O/MC2-2 (io)
part C pins: 1 I/O/GCK3/MC1-7 (io), 33 I/O/GSR/MC2-6 (io), 34 I/O/GTS2/MC2-5 (io), 36 I/O/GTS1/MC2-3 (io), 43 I/O/GCK1/MC1-3 (io), 44 I/O/GCK2/MC1-5 (io)
part D pins: 9 TDI (in), 10 TMS (in), 11 TCK (in), 24 TDO (out)
part E pins: 15 VCC INT (power), 26 VCC IO (power), 35 VCC INT (power)
part F pins: 4 GND (power), 17 GND (power), 25 GND (power)
part A text: BANK 1
part B text: BANK 2

## XC9536-15VQ44I
designator U?
XC9500 5V, 36 Macrocell CPLD, 34 User I/Os, 44-Pin VQFP, Industrial Grade; Published: 8-Jun-2000; LatestRevisionDate: 18-Nov-2009; LatestRevisionNote: Updated to family datasheet version 5.5 Jun-2007.; DatasheetVersion: ver6.3, Apr-2006; PackageVersion: ver1.2, Jun-2004; PackageReference: VQ44; Publisher: Altium Limited; PackageDescription: 44-Pin Very Thin Quad Flat Pack (VQ44); Supplier 1: Digi-Key; Supplier Part Number 1: 122-1394-ND; Code_JEDEC: MS-026-ACB; ComponentLink1Description: XC9536 Datasheet; ComponentLink1URL: http://www.xilinx.com/support/documentation/data_sheets/ds064.pdf; ComponentLink2Description: VQ44 Package Drawing; ComponentLink2URL: http://www.xilinx.com/support/documentation/package_specs/vq44.pdf; ComponentLink3Description: XC9500 Documents; ComponentLink3URL: http://www.xilinx.com/support/documentation/xc9500.htm; ComponentLink4Description: Xilinx.com Home; ComponentLink4URL: http://www.xilinx.com
footprint VQ44_N (Thin QFP, 44-Leads, Body 10x10mm, Pitch 0.8mm, IPC Medium Density)
footprint VQ44_L (Thin QFP, 44-Leads, Body 10x10mm, Pitch 0.8mm, IPC High Density)
footprint VQ44_M (Thin QFP, 44-Leads, Body 10x10mm, Pitch 0.8mm, IPC Low Density)
signal-integrity model XC9536_VQ44 (XC9500)
part A pins: 2 I/O/MC1-1 (io), 3 I/O/MC1-2 (io), 5 I/O/MC1-4 (io), 6 I/O/MC1-8 (io), 7 I/O/MC1-9 (io), 8 I/O/MC1-6 (io), 12 I/O/MC1-10 (io), 13 I/O/MC1-11 (io), 14 I/O/MC1-12 (io), 16 I/O/MC1-13 (io), 18 I/O/MC1-14 (io), 40 I/O/MC1-15 (io), 41 I/O/MC1-16 (io), 42 I/O/MC1-17 (io)
part B pins: 19 I/O/MC2-1 (io), 20 I/O/MC2-17 (io), 21 I/O/MC2-16 (io), 22 I/O/MC2-15 (io), 23 I/O/MC2-14 (io), 27 I/O/MC2-13 (io), 28 I/O/MC2-12 (io), 29 I/O/MC2-11 (io), 30 I/O/MC2-10 (io), 31 I/O/MC2-9 (io), 32 I/O/MC2-8 (io), 37 I/O/MC2-4 (io), 38 I/O/MC2-7 (io), 39 I/O/MC2-2 (io)
part C pins: 1 I/O/GCK3/MC1-7 (io), 33 I/O/GSR/MC2-6 (io), 34 I/O/GTS2/MC2-5 (io), 36 I/O/GTS1/MC2-3 (io), 43 I/O/GCK1/MC1-3 (io), 44 I/O/GCK2/MC1-5 (io)
part D pins: 9 TDI (in), 10 TMS (in), 11 TCK (in), 24 TDO (out)
part E pins: 15 VCC INT (power), 26 VCC IO (power), 35 VCC INT (power)
part F pins: 4 GND (power), 17 GND (power), 25 GND (power)
part A text: BANK 1
part B text: BANK 2

## XC9536-15VQG44C
designator U?
XC9500 5V, 36 Macrocell CPLD, 34 User I/Os, 44-Pin VQFP, Commercial Grade, Pb-Free; Published: 8-Sep-2006; LatestRevisionDate: 18-Nov-2009; LatestRevisionNote: Updated to family datasheet version 5.5 Jun-2007.; DatasheetVersion: ver6.3, Apr-2006; PackageVersion: ver1.2, Jun-2004; PackageReference: VQG44; Publisher: Altium Limited; PackageDescription: 44-Pin Very Thin Quad Flat Pack (VQG44) - Pb-Free; Supplier 1: Digi-Key; Supplier Part Number 1: 122-1434-ND; Supplier 2: Farnell; Supplier Part Number 2: 1528355; Supplier 3: Farnell; Supplier Part Number 3: 1193227; Supplier 4: Newark; Supplier Part Number 4: 98K3377; Supplier 5: Newark; Supplier Part Number 5: 74M5167; Code_JEDEC: MS-026-ACB; ComponentLink1Description: XC9536 Datasheet; ComponentLink1URL: http://www.xilinx.com/support/documentation/data_sheets/ds064.pdf; ComponentLink2Description: VQG44 Package Drawing; ComponentLink2URL: http://www.xilinx.com/support/documentation/package_specs/vq44.pdf; ComponentLink3Description: XC9500 Documents; ComponentLink3URL: http://www.xilinx.com/support/documentation/xc9500.htm; ComponentLink4Description: Xilinx.com Home; ComponentLink4URL: http://www.xilinx.com
footprint VQG44_N (Thin QFP, 44-Leads, Body 10x10mm, Pitch 0.8mm, IPC Medium Density)
footprint VQG44_L (Thin QFP, 44-Leads, Body 10x10mm, Pitch 0.8mm, IPC High Density)
footprint VQG44_M (Thin QFP, 44-Leads, Body 10x10mm, Pitch 0.8mm, IPC Low Density)
signal-integrity model XC9536_VQG44 (XC9500)
part A pins: 2 I/O/MC1-1 (io), 3 I/O/MC1-2 (io), 5 I/O/MC1-4 (io), 6 I/O/MC1-8 (io), 7 I/O/MC1-9 (io), 8 I/O/MC1-6 (io), 12 I/O/MC1-10 (io), 13 I/O/MC1-11 (io), 14 I/O/MC1-12 (io), 16 I/O/MC1-13 (io), 18 I/O/MC1-14 (io), 40 I/O/MC1-15 (io), 41 I/O/MC1-16 (io), 42 I/O/MC1-17 (io)
part B pins: 19 I/O/MC2-1 (io), 20 I/O/MC2-17 (io), 21 I/O/MC2-16 (io), 22 I/O/MC2-15 (io), 23 I/O/MC2-14 (io), 27 I/O/MC2-13 (io), 28 I/O/MC2-12 (io), 29 I/O/MC2-11 (io), 30 I/O/MC2-10 (io), 31 I/O/MC2-9 (io), 32 I/O/MC2-8 (io), 37 I/O/MC2-4 (io), 38 I/O/MC2-7 (io), 39 I/O/MC2-2 (io)
part C pins: 1 I/O/GCK3/MC1-7 (io), 33 I/O/GSR/MC2-6 (io), 34 I/O/GTS2/MC2-5 (io), 36 I/O/GTS1/MC2-3 (io), 43 I/O/GCK1/MC1-3 (io), 44 I/O/GCK2/MC1-5 (io)
part D pins: 9 TDI (in), 10 TMS (in), 11 TCK (in), 24 TDO (out)
part E pins: 15 VCC INT (power), 26 VCC IO (power), 35 VCC INT (power)
part F pins: 4 GND (power), 17 GND (power), 25 GND (power)
part A text: BANK 1
part B text: BANK 2

## XC9536-15VQG44I
designator U?
XC9500 5V, 36 Macrocell CPLD, 34 User I/Os, 44-Pin VQFP, Industrial Grade, Pb-Free; Published: 8-Sep-2006; LatestRevisionDate: 18-Nov-2009; LatestRevisionNote: Updated to family datasheet version 5.5 Jun-2007.; DatasheetVersion: ver6.3, Apr-2006; PackageVersion: ver1.2, Jun-2004; PackageReference: VQG44; Publisher: Altium Limited; PackageDescription: 44-Pin Very Thin Quad Flat Pack (VQG44) - Pb-Free; Code_JEDEC: MS-026-ACB; ComponentLink1Description: XC9536 Datasheet; ComponentLink1URL: http://www.xilinx.com/support/documentation/data_sheets/ds064.pdf; ComponentLink2Description: VQG44 Package Drawing; ComponentLink2URL: http://www.xilinx.com/support/documentation/package_specs/vq44.pdf; ComponentLink3Description: XC9500 Documents; ComponentLink3URL: http://www.xilinx.com/support/documentation/xc9500.htm; ComponentLink4Description: Xilinx.com Home; ComponentLink4URL: http://www.xilinx.com
footprint VQG44_N (Thin QFP, 44-Leads, Body 10x10mm, Pitch 0.8mm, IPC Medium Density)
footprint VQG44_L (Thin QFP, 44-Leads, Body 10x10mm, Pitch 0.8mm, IPC High Density)
footprint VQG44_M (Thin QFP, 44-Leads, Body 10x10mm, Pitch 0.8mm, IPC Low Density)
signal-integrity model XC9536_VQG44 (XC9500)
part A pins: 2 I/O/MC1-1 (io), 3 I/O/MC1-2 (io), 5 I/O/MC1-4 (io), 6 I/O/MC1-8 (io), 7 I/O/MC1-9 (io), 8 I/O/MC1-6 (io), 12 I/O/MC1-10 (io), 13 I/O/MC1-11 (io), 14 I/O/MC1-12 (io), 16 I/O/MC1-13 (io), 18 I/O/MC1-14 (io), 40 I/O/MC1-15 (io), 41 I/O/MC1-16 (io), 42 I/O/MC1-17 (io)
part B pins: 19 I/O/MC2-1 (io), 20 I/O/MC2-17 (io), 21 I/O/MC2-16 (io), 22 I/O/MC2-15 (io), 23 I/O/MC2-14 (io), 27 I/O/MC2-13 (io), 28 I/O/MC2-12 (io), 29 I/O/MC2-11 (io), 30 I/O/MC2-10 (io), 31 I/O/MC2-9 (io), 32 I/O/MC2-8 (io), 37 I/O/MC2-4 (io), 38 I/O/MC2-7 (io), 39 I/O/MC2-2 (io)
part C pins: 1 I/O/GCK3/MC1-7 (io), 33 I/O/GSR/MC2-6 (io), 34 I/O/GTS2/MC2-5 (io), 36 I/O/GTS1/MC2-3 (io), 43 I/O/GCK1/MC1-3 (io), 44 I/O/GCK2/MC1-5 (io)
part D pins: 9 TDI (in), 10 TMS (in), 11 TCK (in), 24 TDO (out)
part E pins: 15 VCC INT (power), 26 VCC IO (power), 35 VCC INT (power)
part F pins: 4 GND (power), 17 GND (power), 25 GND (power)
part A text: BANK 1
part B text: BANK 2

## XC9572-7PC44C
designator U?
XC9500 5V, 72 Macrocell CPLD, 34 User I/Os, 44-Pin PLCC, Commercial Grade; Published: 8-Jun-2000; LatestRevisionDate: 18-Nov-2009; LatestRevisionNote: Updated to family datasheet version 5.5 Jun-2007.; DatasheetVersion: ver4.3, Apr-2006; PackageVersion: ver1.2, Jun-2004; PackageReference: PC44; Publisher: Altium Limited; PackageDescription: 44-Pin Plastic Leaded Chip Carrier (PC44); Supplier 1: Digi-Key; Supplier Part Number 1: XC9572-7PC44C-ND; Code_JEDEC: MS-047; Code_IPC: PLCC-44; ComponentLink1Description: XC9572 Datasheet; ComponentLink1URL: http://www.xilinx.com/support/documentation/data_sheets/ds065.pdf; ComponentLink2Description: PC44 Package Drawing; ComponentLink2URL: http://www.xilinx.com/support/documentation/package_specs/pc44.pdf; ComponentLink3Description: XC9500 Documents; ComponentLink3URL: http://www.xilinx.com/support/documentation/xc9500.htm; ComponentLink4Description: Xilinx.com Home; ComponentLink4URL: http://www.xilinx.com
footprint PC44_N (Leaded Chip Carrier, 44-Leads, Body 16.6x16.6mm, Pitch 1.27mm, IPC Medium Density)
footprint PC44_L (Leaded Chip Carrier, 44-Leads, Body 16.6x16.6mm, Pitch 1.27mm, IPC High Density)
footprint PC44_M (Leaded Chip Carrier, 44-Leads, Body 16.6x16.6mm, Pitch 1.27mm, IPC Low Density)
signal-integrity model XC9572_PLCC44 (XC9500)
part A pins: 1 I/O/MC1-2 (io), 2 I/O/MC1-5 (io), 3 I/O/MC1-6 (io), 4 I/O/MC1-8 (io), 5 I/O/GCK1/MC1-9 (io), 6 I/O/GCK2/MC1-11 (io), 7 I/O/GCK3/MC1-14 (io), 8 I/O/MC1-15 (io), 9 I/O/MC1-17 (io)
part B pins: 35 I/O/MC2-2 (io), 36 I/O/MC2-5 (io), 37 I/O/MC2-6 (io), 38 I/O/MC2-8 (io), 39 I/O/GSR/MC2-9 (io), 40 I/O/GTS2/MC2-11 (io), 42 I/O/GTS1/MC2-14 (io), 43 I/O/MC2-15 (io), 44 I/O/MC2-17 (io)
part C pins: 11 I/O/MC3-2 (io), 12 I/O/MC3-5 (io), 13 I/O/MC3-8 (io), 14 I/O/MC3-9 (io), 18 I/O/MC3-11 (io), 19 I/O/MC3-14 (io), 20 I/O/MC3-15 (io), 22 I/O/MC3-17 (io)
part D pins: 24 I/O/MC4-2 (io), 25 I/O/MC4-5 (io), 26 I/O/MC4-8 (io), 27 I/O/MC4-9 (io), 28 I/O/MC4-11 (io), 29 I/O/MC4-14 (io), 33 I/O/MC4-15 (io), 34 I/O/MC4-17 (io)
part E pins: 15 TDI (in), 16 TMS (in), 17 TCK (in), 30 TDO (out)
part F pins: 21 VCCINT (power), 32 VCCIO (power), 41 VCCINT (power)
part G pins: 10 GND (power), 23 GND (power), 31 GND (power)
part A text: BANK 1
part B text: BANK 2
part C text: BANK 3
part D text: BANK 4

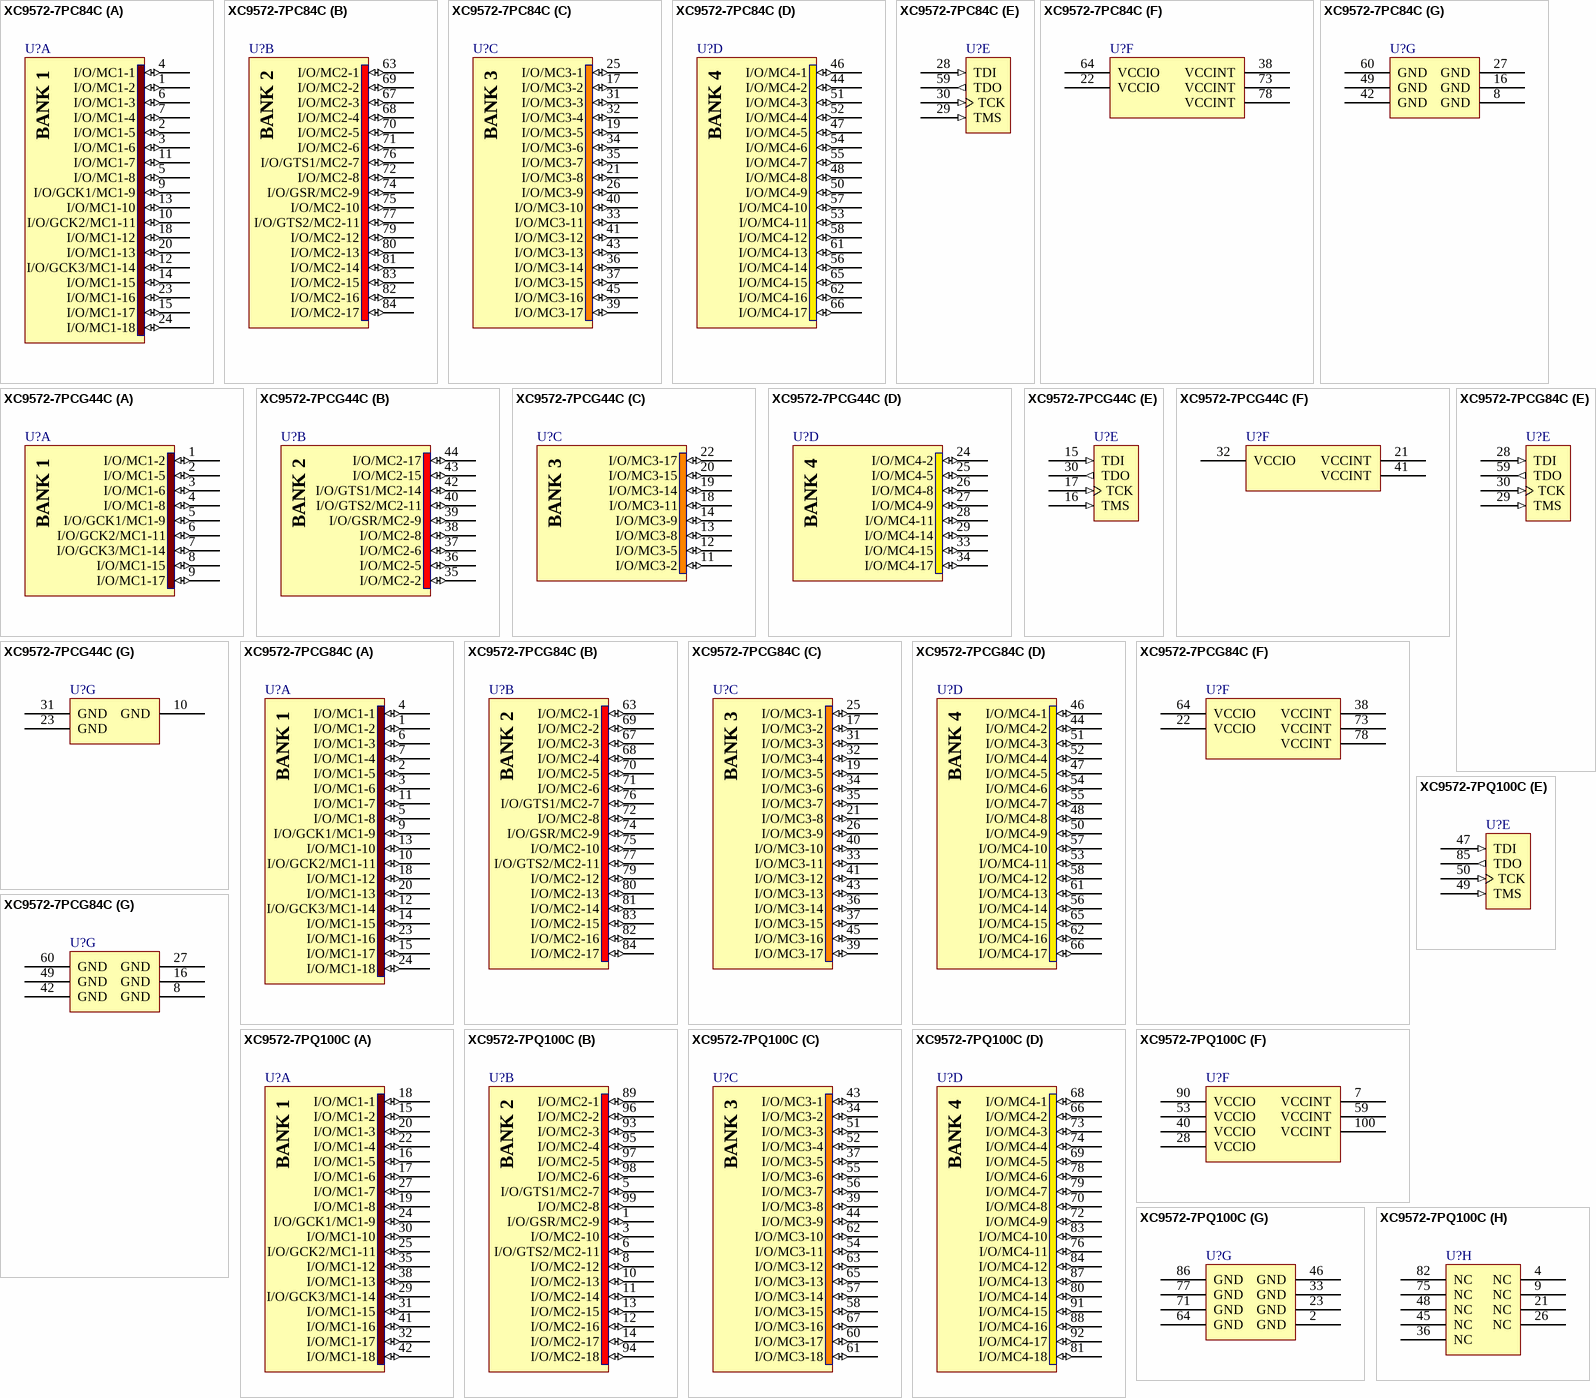
[diagram p9: symbols XC9572-7PC84C to XC9572-7PQ100C]

## XC9572-7PC84C
designator U?
XC9500 5V, 72 Macrocell CPLD, 69 User I/Os, 84-Pin PLCC, Commercial Grade; Published: 8-Jun-2000; LatestRevisionDate: 18-Nov-2009; LatestRevisionNote: Updated to family datasheet version 5.5 Jun-2007.; DatasheetVersion: ver4.3, Apr-2006; PackageVersion: ver1.2, Jun-2004; PackageReference: PC84; Publisher: Altium Limited; PackageDescription: 84-Pin Plastic Leaded Chip Carrier (PC84); Supplier 1: Digi-Key; Supplier Part Number 1: 122-1262-ND; Code_JEDEC: MS-047; Code_IPC: PLCC-84; ComponentLink1Description: XC9572 Datasheet; ComponentLink1URL: http://www.xilinx.com/support/documentation/data_sheets/ds065.pdf; ComponentLink2Description: PC84 Package Drawing; ComponentLink2URL: http://www.xilinx.com/support/documentation/package_specs/pc84.pdf; ComponentLink3Description: XC9500 Documents; ComponentLink3URL: http://www.xilinx.com/support/documentation/xc9500.htm; ComponentLink4Description: Xilinx.com Home; ComponentLink4URL: http://www.xilinx.com
footprint PC84_N (Leaded Chip Carrier, 84-Leads, Body 29.3x29.3mm, Pitch 1.27mm, IPC Medium Density)
footprint PC84_L (Leaded Chip Carrier, 84-Leads, Body 29.3x29.3mm, Pitch 1.27mm, IPC High Density)
footprint PC84_M (Leaded Chip Carrier, 84-Leads, Body 29.3x29.3mm, Pitch 1.27mm, IPC Low Density)
signal-integrity model XC9572_PLCC84 (XC9500)
part A pins: 1 I/O/MC1-2 (io), 2 I/O/MC1-5 (io), 3 I/O/MC1-6 (io), 4 I/O/MC1-1 (io), 5 I/O/MC1-8 (io), 6 I/O/MC1-3 (io), 7 I/O/MC1-4 (io), 9 I/O/GCK1/MC1-9 (io), 10 I/O/GCK2/MC1-11 (io), 11 I/O/MC1-7 (io), 12 I/O/GCK3/MC1-14 (io), 13 I/O/MC1-10 (io), 14 I/O/MC1-15 (io), 15 I/O/MC1-17 (io), 18 I/O/MC1-12 (io), 20 I/O/MC1-13 (io), 23 I/O/MC1-16 (io), 24 I/O/MC1-18 (io)
part B pins: 63 I/O/MC2-1 (io), 67 I/O/MC2-3 (io), 68 I/O/MC2-4 (io), 69 I/O/MC2-2 (io), 70 I/O/MC2-5 (io), 71 I/O/MC2-6 (io), 72 I/O/MC2-8 (io), 74 I/O/GSR/MC2-9 (io), 75 I/O/MC2-10 (io), 76 I/O/GTS1/MC2-7 (io), 77 I/O/GTS2/MC2-11 (io), 79 I/O/MC2-12 (io), 80 I/O/MC2-13 (io), 81 I/O/MC2-14 (io), 82 I/O/MC2-16 (io), 83 I/O/MC2-15 (io), 84 I/O/MC2-17 (io)
part C pins: 17 I/O/MC3-2 (io), 19 I/O/MC3-5 (io), 21 I/O/MC3-8 (io), 25 I/O/MC3-1 (io), 26 I/O/MC3-9 (io), 31 I/O/MC3-3 (io), 32 I/O/MC3-4 (io), 33 I/O/MC3-11 (io), 34 I/O/MC3-6 (io), 35 I/O/MC3-7 (io), 36 I/O/MC3-14 (io), 37 I/O/MC3-15 (io), 39 I/O/MC3-17 (io), 40 I/O/MC3-10 (io), 41 I/O/MC3-12 (io), 43 I/O/MC3-13 (io), 45 I/O/MC3-16 (io)
part D pins: 44 I/O/MC4-2 (io), 46 I/O/MC4-1 (io), 47 I/O/MC4-5 (io), 48 I/O/MC4-8 (io), 50 I/O/MC4-9 (io), 51 I/O/MC4-3 (io), 52 I/O/MC4-4 (io), 53 I/O/MC4-11 (io), 54 I/O/MC4-6 (io), 55 I/O/MC4-7 (io), 56 I/O/MC4-14 (io), 57 I/O/MC4-10 (io), 58 I/O/MC4-12 (io), 61 I/O/MC4-13 (io), 62 I/O/MC4-16 (io), 65 I/O/MC4-15 (io), 66 I/O/MC4-17 (io)
part E pins: 28 TDI (in), 29 TMS (in), 30 TCK (in), 59 TDO (out)
part F pins: 22 VCCIO (power), 38 VCCINT (power), 64 VCCIO (power), 73 VCCINT (power), 78 VCCINT (power)
part G pins: 8 GND (power), 16 GND (power), 27 GND (power), 42 GND (power), 49 GND (power), 60 GND (power)
part A text: BANK 1
part B text: BANK 2
part C text: BANK 3
part D text: BANK 4

## XC9572-7PCG44C
designator U?
XC9500 5V, 72 Macrocell CPLD, 34 User I/Os, 44-Pin PLCC, Commercial Grade, Pb-Free; Published: 8-Sep-2006; LatestRevisionDate: 18-Nov-2009; LatestRevisionNote: Updated to family datasheet version 5.5 Jun-2007.; DatasheetVersion: ver4.3, Apr-2006; PackageVersion: ver1.2, Jun-2004; PackageReference: PCG44; Publisher: Altium Limited; PackageDescription: 44-Pin Plastic Leaded Chip Carrier (PCG44) - Pb-Free; Code_JEDEC: MS-047; Code_IPC: PLCC-44; ComponentLink1Description: XC9572 Datasheet; ComponentLink1URL: http://www.xilinx.com/support/documentation/data_sheets/ds065.pdf; ComponentLink2Description: PCG44 Package Drawing; ComponentLink2URL: http://www.xilinx.com/support/documentation/package_specs/pc44.pdf; ComponentLink3Description: XC9500 Documents; ComponentLink3URL: http://www.xilinx.com/support/documentation/xc9500.htm; ComponentLink4Description: Xilinx.com Home; ComponentLink4URL: http://www.xilinx.com
footprint PCG44_N (Leaded Chip Carrier, 44-Leads, Body 16.6x16.6mm, Pitch 1.27mm, IPC Medium Density)
footprint PCG44_L (Leaded Chip Carrier, 44-Leads, Body 16.6x16.6mm, Pitch 1.27mm, IPC High Density)
footprint PCG44_M (Leaded Chip Carrier, 44-Leads, Body 16.6x16.6mm, Pitch 1.27mm, IPC Low Density)
signal-integrity model XC9572_PCG44 (XC9500)
part A pins: 1 I/O/MC1-2 (io), 2 I/O/MC1-5 (io), 3 I/O/MC1-6 (io), 4 I/O/MC1-8 (io), 5 I/O/GCK1/MC1-9 (io), 6 I/O/GCK2/MC1-11 (io), 7 I/O/GCK3/MC1-14 (io), 8 I/O/MC1-15 (io), 9 I/O/MC1-17 (io)
part B pins: 35 I/O/MC2-2 (io), 36 I/O/MC2-5 (io), 37 I/O/MC2-6 (io), 38 I/O/MC2-8 (io), 39 I/O/GSR/MC2-9 (io), 40 I/O/GTS2/MC2-11 (io), 42 I/O/GTS1/MC2-14 (io), 43 I/O/MC2-15 (io), 44 I/O/MC2-17 (io)
part C pins: 11 I/O/MC3-2 (io), 12 I/O/MC3-5 (io), 13 I/O/MC3-8 (io), 14 I/O/MC3-9 (io), 18 I/O/MC3-11 (io), 19 I/O/MC3-14 (io), 20 I/O/MC3-15 (io), 22 I/O/MC3-17 (io)
part D pins: 24 I/O/MC4-2 (io), 25 I/O/MC4-5 (io), 26 I/O/MC4-8 (io), 27 I/O/MC4-9 (io), 28 I/O/MC4-11 (io), 29 I/O/MC4-14 (io), 33 I/O/MC4-15 (io), 34 I/O/MC4-17 (io)
part E pins: 15 TDI (in), 16 TMS (in), 17 TCK (in), 30 TDO (out)
part F pins: 21 VCCINT (power), 32 VCCIO (power), 41 VCCINT (power)
part G pins: 10 GND (power), 23 GND (power), 31 GND (power)
part A text: BANK 1
part B text: BANK 2
part C text: BANK 3
part D text: BANK 4

## XC9572-7PCG84C
designator U?
XC9500 5V, 72 Macrocell CPLD, 69 User I/Os, 84-Pin PLCC, Commercial Grade, Pb-Free; Published: 8-Sep-2006; LatestRevisionDate: 18-Nov-2009; LatestRevisionNote: Updated to family datasheet version 5.5 Jun-2007.; DatasheetVersion: ver4.3, Apr-2006; PackageVersion: ver1.2, Jun-2004; PackageReference: PCG84; Publisher: Altium Limited; PackageDescription: 84-Pin Plastic Leaded Chip Carrier (PCG84) - Pb-Free; Code_JEDEC: MS-047; Code_IPC: PLCC-84; ComponentLink1Description: XC9572 Datasheet; ComponentLink1URL: http://www.xilinx.com/support/documentation/data_sheets/ds065.pdf; ComponentLink2Description: PCG84 Package Drawing; ComponentLink2URL: http://www.xilinx.com/support/documentation/package_specs/pc84.pdf; ComponentLink3Description: XC9500 Documents; ComponentLink3URL: http://www.xilinx.com/support/documentation/xc9500.htm; ComponentLink4Description: Xilinx.com Home; ComponentLink4URL: http://www.xilinx.com
footprint PCG84_N (Leaded Chip Carrier, 84-Leads, Body 29.3x29.3mm, Pitch 1.27mm, IPC Medium Density)
footprint PCG84_L (Leaded Chip Carrier, 84-Leads, Body 29.3x29.3mm, Pitch 1.27mm, IPC High Density)
footprint PCG84_M (Leaded Chip Carrier, 84-Leads, Body 29.3x29.3mm, Pitch 1.27mm, IPC Low Density)
signal-integrity model XC9572_PCG84 (XC9500)
part A pins: 1 I/O/MC1-2 (io), 2 I/O/MC1-5 (io), 3 I/O/MC1-6 (io), 4 I/O/MC1-1 (io), 5 I/O/MC1-8 (io), 6 I/O/MC1-3 (io), 7 I/O/MC1-4 (io), 9 I/O/GCK1/MC1-9 (io), 10 I/O/GCK2/MC1-11 (io), 11 I/O/MC1-7 (io), 12 I/O/GCK3/MC1-14 (io), 13 I/O/MC1-10 (io), 14 I/O/MC1-15 (io), 15 I/O/MC1-17 (io), 18 I/O/MC1-12 (io), 20 I/O/MC1-13 (io), 23 I/O/MC1-16 (io), 24 I/O/MC1-18 (io)
part B pins: 63 I/O/MC2-1 (io), 67 I/O/MC2-3 (io), 68 I/O/MC2-4 (io), 69 I/O/MC2-2 (io), 70 I/O/MC2-5 (io), 71 I/O/MC2-6 (io), 72 I/O/MC2-8 (io), 74 I/O/GSR/MC2-9 (io), 75 I/O/MC2-10 (io), 76 I/O/GTS1/MC2-7 (io), 77 I/O/GTS2/MC2-11 (io), 79 I/O/MC2-12 (io), 80 I/O/MC2-13 (io), 81 I/O/MC2-14 (io), 82 I/O/MC2-16 (io), 83 I/O/MC2-15 (io), 84 I/O/MC2-17 (io)
part C pins: 17 I/O/MC3-2 (io), 19 I/O/MC3-5 (io), 21 I/O/MC3-8 (io), 25 I/O/MC3-1 (io), 26 I/O/MC3-9 (io), 31 I/O/MC3-3 (io), 32 I/O/MC3-4 (io), 33 I/O/MC3-11 (io), 34 I/O/MC3-6 (io), 35 I/O/MC3-7 (io), 36 I/O/MC3-14 (io), 37 I/O/MC3-15 (io), 39 I/O/MC3-17 (io), 40 I/O/MC3-10 (io), 41 I/O/MC3-12 (io), 43 I/O/MC3-13 (io), 45 I/O/MC3-16 (io)
part D pins: 44 I/O/MC4-2 (io), 46 I/O/MC4-1 (io), 47 I/O/MC4-5 (io), 48 I/O/MC4-8 (io), 50 I/O/MC4-9 (io), 51 I/O/MC4-3 (io), 52 I/O/MC4-4 (io), 53 I/O/MC4-11 (io), 54 I/O/MC4-6 (io), 55 I/O/MC4-7 (io), 56 I/O/MC4-14 (io), 57 I/O/MC4-10 (io), 58 I/O/MC4-12 (io), 61 I/O/MC4-13 (io), 62 I/O/MC4-16 (io), 65 I/O/MC4-15 (io), 66 I/O/MC4-17 (io)
part E pins: 28 TDI (in), 29 TMS (in), 30 TCK (in), 59 TDO (out)
part F pins: 22 VCCIO (power), 38 VCCINT (power), 64 VCCIO (power), 73 VCCINT (power), 78 VCCINT (power)
part G pins: 8 GND (power), 16 GND (power), 27 GND (power), 42 GND (power), 49 GND (power), 60 GND (power)
part A text: BANK 1
part B text: BANK 2
part C text: BANK 3
part D text: BANK 4